# Altium integrated library Atmel Microcontroller 32-Bit ARM.IntLib: 116 symbols (part 1 of 10)
Pins are listed as number, name and electrical type; pins without a type are passive.

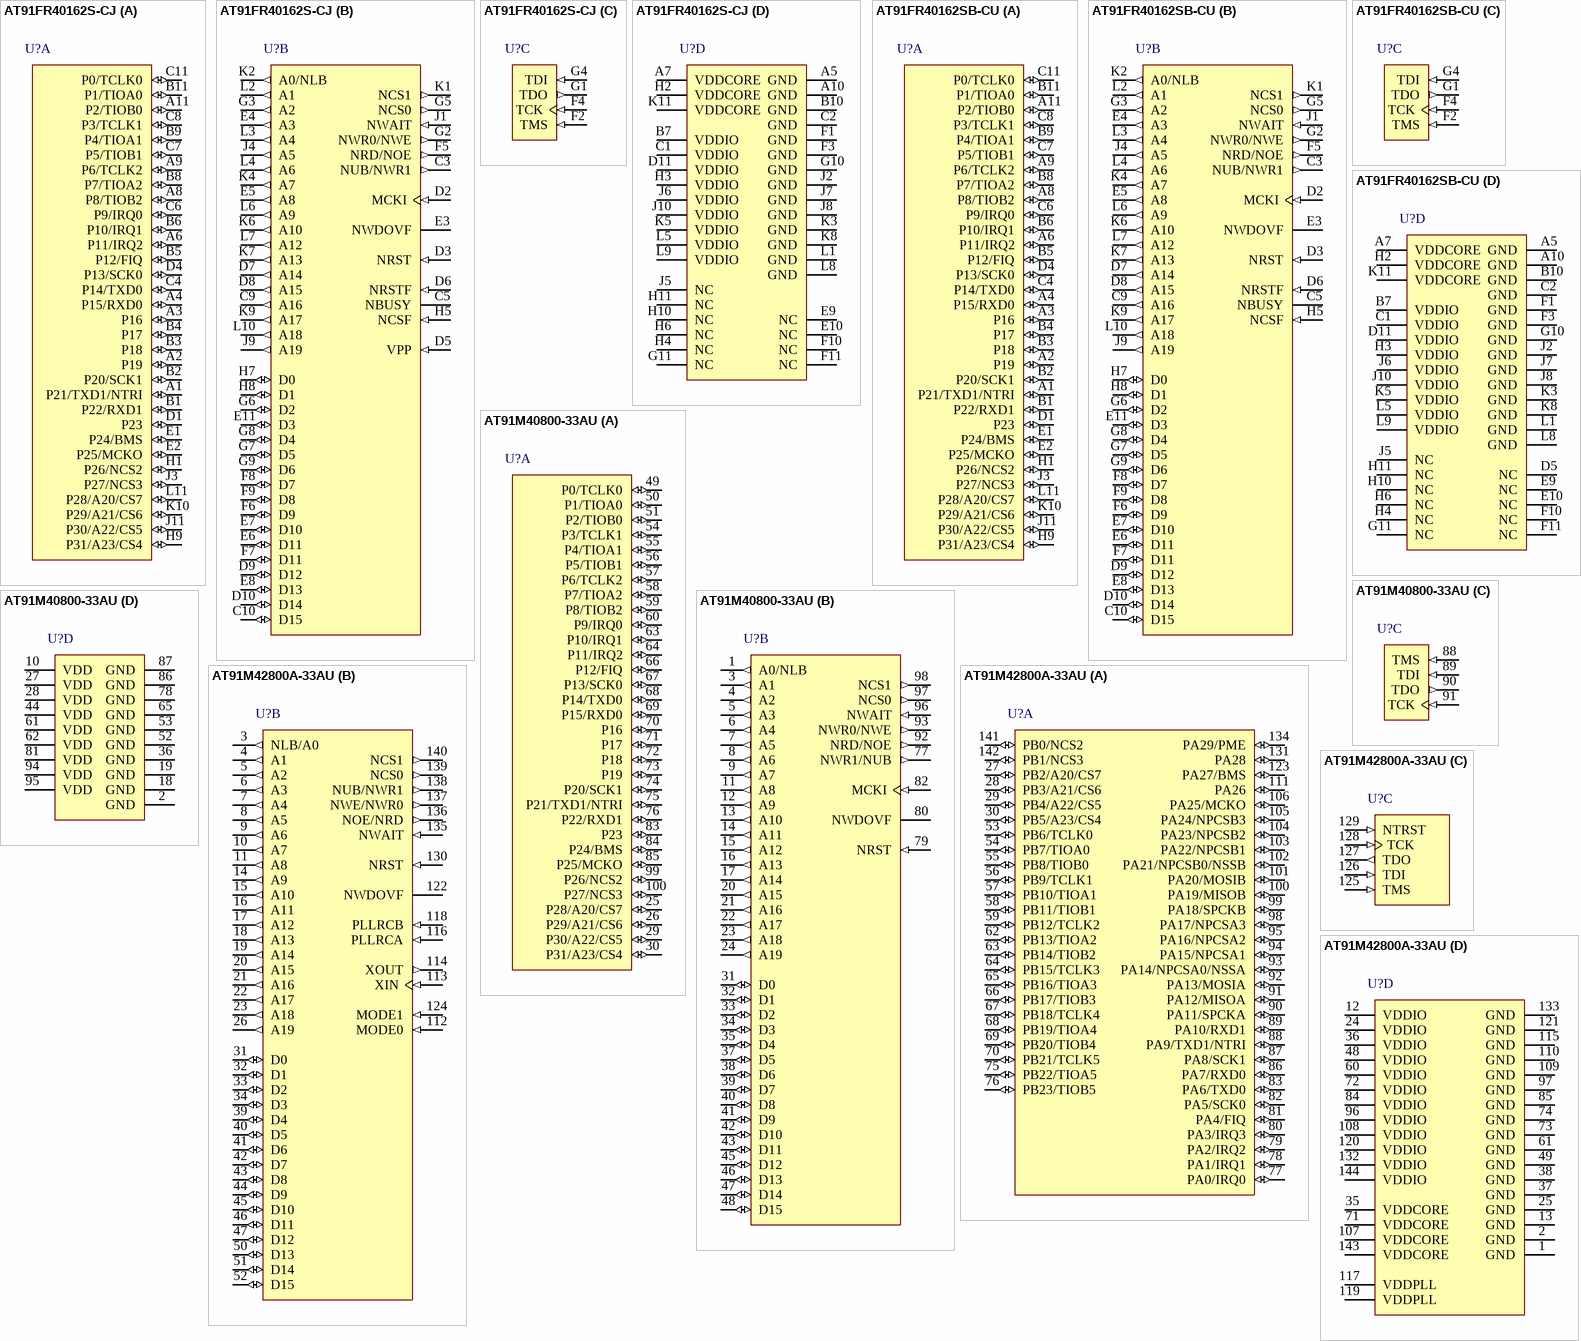
[diagram p0: symbols AT91FR40162S-CJ to AT91M42800A-33AU]

## AT91FR40162S-CJ
designator U?
AT91 ARM Thumb 32-bit Microcontroller, 2MB Flash, 256KB SRAM, EBI, 4-ch. PDC, 32 User I/Os, 121-Pin TFBGA, Industrial Grade (-40°C to 85°C), Pb-Free; Published: 20-Sep-2010; DatasheetVersion: revB, Nov-2005; PackageVersion: 2005; PackageReference: TFBGA121; Publisher: Altium Limited; PackageDescription: 121-Lead Low Profile Thin-Fine Pitch BGA - 10x10 mm Body; Supplier 1: Digi-Key; Supplier Part Number 1: AT91FR40162S-CJ-ND; Supplier 2: Mouser; Supplier Part Number 2: 556-A91FR40162S-CJ; ComponentLink1Description: Manufacturer Link; ComponentLink1URL: http://www.atmel.com/products/AT91/default.asp?; ComponentLink2Description: AT91FR40162S Datasheet; ComponentLink2URL: http://www.atmel.com/dyn/resources/prod_documents/doc6174.pdf; ComponentLink3Description: AT91FR40162S Summary; ComponentLink3URL: http://www.atmel.com/dyn/resources/prod_documents/6174S.pdf; ComponentLink4Description: ARM7TDMI Reference Manual; ComponentLink4URL: http://www.atmel.com/dyn/resources/prod_documents/DDI0029G_7TDMI_R3_trm.pdf; ComponentLink5Description: Atmel.com Home; ComponentLink5URL: http://www.atmel.com
footprint TFBGA121 (BGA, 121-Leads, Body 10x10mm, Pitch 0.8mm)
part A pins: A1 P21/TXD1/NTRI (io), A2 P19 (io), A3 P16 (io), A4 P15/RXD0 (io), A6 P11/IRQ2 (io), A8 P8/TIOB2 (io), A9 P6/TCLK2 (io), A11 P2/TIOB0 (io), B1 P22/RXD1 (io), B2 P20/SCK1 (io), B3 P18 (io), B4 P17 (io), B5 P12/FIQ (io), B6 P10/IRQ1 (io), B8 P7/TIOA2 (io), B9 P4/TIOA1 (io), B11 P1/TIOA0 (io), C4 P14/TXD0 (io), C6 P9/IRQ0 (io), C7 P5/TIOB1 (io), C8 P3/TCLK1 (io), C11 P0/TCLK0 (io), D1 P23 (io), D4 P13/SCK0 (io), E1 P24/BMS (io), E2 P25/MCKO (io), H1 P26/NCS2 (io), H9 P31/A23/CS4 (io), J3 P27/NCS3 (io), J11 P30/A22/CS5 (io), K10 P29/A21/CS6 (io), L11 P28/A20/CS7 (io)
part B pins: C3 NUB/NWR1 (out), C5 NBUSY (oc), C9 A16 (out), C10 D15 (io), D2 MCKI (in), D3 NRST (in), D5 VPP (in), D6 NRSTF (in), D7 A14 (out), D8 A15 (out), D9 D12 (io), D10 D14 (io), E3 NWDOVF (oc), E4 A3 (out), E5 A8 (out), E6 D11 (io), E7 D10 (io), E8 D13 (io), E11 D3 (io), F5 NRD/NOE (out), F6 D9 (io), F7 D11 (io), F8 D7 (io), F9 D8 (io), G2 NWR0/NWE (out), G3 A2 (out), G5 NCS0 (out), G6 D2 (io), G7 D5 (io), G8 D4 (io), G9 D6 (io), H5 NCSF (in), H7 D0 (io), H8 D1 (io), J1 NWAIT (in), J4 A5 (out), J9 A19 (out), K1 NCS1 (out), K2 A0/NLB (out), K4 A7 (out), K6 A10 (out), K7 A13 (out), K9 A17 (out), L2 A1 (out), L3 A4 (out), L4 A6 (out), L6 A9 (out), L7 A12 (out), L10 A18 (out)
part C pins: F2 TMS (in), F4 TCK (in), G1 TDO (out), G4 TDI (in)
part D pins: A5 GND (power), A7 VDDCORE (power), A10 GND (power), B7 VDDIO (power), B10 GND (power), C1 VDDIO (power), C2 GND (power), D11 VDDIO (power), E9 NC, E10 NC, F1 GND (power), F3 GND (power), F10 NC, F11 NC, G10 GND (power), G11 NC, H2 VDDCORE (power), H3 VDDIO (power), H4 NC, H6 NC, H10 NC, H11 NC, J2 GND (power), J5 NC, J6 VDDIO (power), J7 GND (power), J8 GND (power), J10 VDDIO (power), K3 GND (power), K5 VDDIO (power), K8 GND (power), K11 VDDCORE (power), L1 GND (power), L5 VDDIO (power), L8 GND (power), L9 VDDIO (power)

## AT91FR40162SB-CU
designator U?
AT91 ARM Thumb 32-bit Microcontroller, 2MB Flash, 256KB SRAM, EBI, 4-ch. PDC, 32 User I/Os, 121-Pin TFBGA, Industrial Grade (-40°C to 85°C), Pb-Free; Published: 20-Sep-2010; DatasheetVersion: revB, Jan-2010; PackageVersion: 2005; PackageReference: TFBGA121; Publisher: Altium Limited; PackageDescription: 121-Lead Low Profile Thin-Fine Pitch BGA - 10x10 mm Body; Supplier 1: Digi-Key; Supplier Part Number 1: AT91FR40162SB-CU-ND; Supplier 2: Mouser; Supplier Part Number 2: 556-AT91FR40162SB-CU; ComponentLink1Description: Manufacturer Link; ComponentLink1URL: http://www.atmel.com/products/AT91/default.asp?; ComponentLink2Description: AT91FR40162SB Datasheet; ComponentLink2URL: http://www.atmel.com/dyn/resources/prod_documents/doc6410.pdf; ComponentLink3Description: AT91FR40162SB Summary; ComponentLink3URL: http://www.atmel.com/dyn/resources/prod_documents/6410s.pdf; ComponentLink4Description: ARM7TDMI Reference Manual; ComponentLink4URL: http://www.atmel.com/dyn/resources/prod_documents/DDI0029G_7TDMI_R3_trm.pdf; ComponentLink5Description: Atmel.com Home; ComponentLink5URL: http://www.atmel.com
footprint TFBGA121 (BGA, 121-Leads, Body 10x10mm, Pitch 0.8mm)
part A pins: A1 P21/TXD1/NTRI (io), A2 P19 (io), A3 P16 (io), A4 P15/RXD0 (io), A6 P11/IRQ2 (io), A8 P8/TIOB2 (io), A9 P6/TCLK2 (io), A11 P2/TIOB0 (io), B1 P22/RXD1 (io), B2 P20/SCK1 (io), B3 P18 (io), B4 P17 (io), B5 P12/FIQ (io), B6 P10/IRQ1 (io), B8 P7/TIOA2 (io), B9 P4/TIOA1 (io), B11 P1/TIOA0 (io), C4 P14/TXD0 (io), C6 P9/IRQ0 (io), C7 P5/TIOB1 (io), C8 P3/TCLK1 (io), C11 P0/TCLK0 (io), D1 P23 (io), D4 P13/SCK0 (io), E1 P24/BMS (io), E2 P25/MCKO (io), H1 P26/NCS2 (io), H9 P31/A23/CS4 (io), J3 P27/NCS3 (io), J11 P30/A22/CS5 (io), K10 P29/A21/CS6 (io), L11 P28/A20/CS7 (io)
part B pins: C3 NUB/NWR1 (out), C5 NBUSY (oc), C9 A16 (out), C10 D15 (io), D2 MCKI (in), D3 NRST (in), D6 NRSTF (in), D7 A14 (out), D8 A15 (out), D9 D12 (io), D10 D14 (io), E3 NWDOVF (oc), E4 A3 (out), E5 A8 (out), E6 D11 (io), E7 D10 (io), E8 D13 (io), E11 D3 (io), F5 NRD/NOE (out), F6 D9 (io), F7 D11 (io), F8 D7 (io), F9 D8 (io), G2 NWR0/NWE (out), G3 A2 (out), G5 NCS0 (out), G6 D2 (io), G7 D5 (io), G8 D4 (io), G9 D6 (io), H5 NCSF (in), H7 D0 (io), H8 D1 (io), J1 NWAIT (in), J4 A5 (out), J9 A19 (out), K1 NCS1 (out), K2 A0/NLB (out), K4 A7 (out), K6 A10 (out), K7 A13 (out), K9 A17 (out), L2 A1 (out), L3 A4 (out), L4 A6 (out), L6 A9 (out), L7 A12 (out), L10 A18 (out)
part C pins: F2 TMS (in), F4 TCK (in), G1 TDO (out), G4 TDI (in)
part D pins: A5 GND (power), A7 VDDCORE (power), A10 GND (power), B7 VDDIO (power), B10 GND (power), C1 VDDIO (power), C2 GND (power), D5 NC, D11 VDDIO (power), E9 NC, E10 NC, F1 GND (power), F3 GND (power), F10 NC, F11 NC, G10 GND (power), G11 NC, H2 VDDCORE (power), H3 VDDIO (power), H4 NC, H6 NC, H10 NC, H11 NC, J2 GND (power), J5 NC, J6 VDDIO (power), J7 GND (power), J8 GND (power), J10 VDDIO (power), K3 GND (power), K5 VDDIO (power), K8 GND (power), K11 VDDCORE (power), L1 GND (power), L5 VDDIO (power), L8 GND (power), L9 VDDIO (power)

## AT91M40800-33AU
designator U?
AT91 ARM Thumb 32-bit Microcontroller, 8KB SRAM, EBI, 4-ch. PDC, 40MHz (max), 32 User I/Os, 100-Pin LQFP, Industrial Grade (-40°C to 85°C), Pb-Free; Published: 20-Sep-2010; DatasheetVersion: revD, Oct-2002; PackageVersion: Apr-2006; PackageReference: LQFP100; Publisher: Altium Limited; PackageDescription: 100-Pin Thin Quad Flat Pack 0.5 mm Pitch; Supplier 1: Digi-Key; Supplier Part Number 1: AT91M40800-33AU-ND; Supplier 2: Mouser; Supplier Part Number 2: 556-A91M40800-33AU; Code_JEDEC: MS-026-BED; ComponentLink1Description: Manufacturer Link; ComponentLink1URL: http://www.atmel.com/products/AT91/default.asp?; ComponentLink2Description: AT91X40 Series Datasheet; ComponentLink2URL: http://www.atmel.com/dyn/resources/prod_documents/doc1354.pdf; ComponentLink3Description: AT91M40800 Summary; ComponentLink3URL: http://www.atmel.com/dyn/resources/prod_documents/1348S.pdf; ComponentLink4Description: ARM7TDMI Reference Manual; ComponentLink4URL: http://www.atmel.com/dyn/resources/prod_documents/DDI0029G_7TDMI_R3_trm.pdf; ComponentLink5Description: Atmel.com Home; ComponentLink5URL: http://www.atmel.com
footprint LQFP100_N (Thin QFP, 100-Leads, Body 14x14mm, Pitch 0.5mm, IPC Medium Density)
footprint LQFP100_L (Thin QFP, 100-Leads, Body 14x14mm, Pitch 0.5mm, IPC High Density)
footprint LQFP100_M (Thin QFP, 100-Leads, Body 14x14mm, Pitch 0.5mm, IPC Low Density)
part A pins: 25 P28/A20/CS7 (io), 26 P29/A21/CS6 (io), 29 P30/A22/CS5 (io), 30 P31/A23/CS4 (io), 49 P0/TCLK0 (io), 50 P1/TIOA0 (io), 51 P2/TIOB0 (io), 54 P3/TCLK1 (io), 55 P4/TIOA1 (io), 56 P5/TIOB1 (io), 57 P6/TCLK2 (io), 58 P7/TIOA2 (io), 59 P8/TIOB2 (io), 60 P9/IRQ0 (io), 63 P10/IRQ1 (io), 64 P11/IRQ2 (io), 66 P12/FIQ (io), 67 P13/SCK0 (io), 68 P14/TXD0 (io), 69 P15/RXD0 (io), 70 P16 (io), 71 P17 (io), 72 P18 (io), 73 P19 (io), 74 P20/SCK1 (io), 75 P21/TXD1/NTRI (io), 76 P22/RXD1 (io), 83 P23 (io), 84 P24/BMS (io), 85 P25/MCKO (io), 99 P26/NCS2 (io), 100 P27/NCS3 (io)
part B pins: 1 A0/NLB (out), 3 A1 (out), 4 A2 (out), 5 A3 (out), 6 A4 (out), 7 A5 (out), 8 A6 (out), 9 A7 (out), 11 A8 (out), 12 A9 (out), 13 A10 (out), 14 A11 (out), 15 A12 (out), 16 A13 (out), 17 A14 (out), 20 A15 (out), 21 A16 (out), 22 A17 (out), 23 A18 (out), 24 A19 (out), 31 D0 (io), 32 D1 (io), 33 D2 (io), 34 D3 (io), 35 D4 (io), 37 D5 (io), 38 D6 (io), 39 D7 (io), 40 D8 (io), 41 D9 (io), 42 D10 (io), 43 D11 (io), 45 D12 (io), 46 D13 (io), 47 D14 (io), 48 D15 (io), 77 NWR1/NUB (out), 79 NRST (in), 80 NWDOVF (oc), 82 MCKI (in), 92 NRD/NOE (out), 93 NWR0/NWE (out), 96 NWAIT (in), 97 NCS0 (out), 98 NCS1 (out)
part C pins: 88 TMS (in), 89 TDI (in), 90 TDO (out), 91 TCK (in)
part D pins: 2 GND (power), 10 VDD (power), 18 GND (power), 19 GND (power), 27 VDD (power), 28 VDD (power), 36 GND (power), 44 VDD (power), 52 GND (power), 53 GND (power), 61 VDD (power), 62 VDD (power), 65 GND (power), 78 GND (power), 81 VDD (power), 86 GND (power), 87 GND (power), 94 VDD (power), 95 VDD (power)

## AT91M42800A-33AU
designator U?
AT91 ARM Thumb 32-bit Microcontroller, 8KB SRAM, EBI, 54 User I/Os, 144-Pin LQFP, Industrial Grade (-40°C to 85°C), Pb-Free; Published: 20-Sep-2010; DatasheetVersion: revD, Apr-2006; PackageVersion: rev.C, Oct-2001; PackageReference: 144AA; Publisher: Altium Limited; PackageDescription: 144-Pin Thin Quad Flat Pack 0.5 mm Pitch; Supplier 1: Digi-Key; Supplier Part Number 1: AT91M42800A-33AU-ND; Supplier 2: Mouser; Supplier Part Number 2: 556-A91M42800A-33AU; Code_JEDEC: MS-026-BFB; ComponentLink1Description: Manufacturer Link; ComponentLink1URL: http://www.atmel.com/products/AT91/default.asp?; ComponentLink2Description: AT91M42800A Datasheet; ComponentLink2URL: http://www.atmel.com/dyn/resources/prod_documents/doc1779.pdf; ComponentLink3Description: AT91M42800A Summary; ComponentLink3URL: http://www.atmel.com/dyn/resources/prod_documents/1779s.pdf; ComponentLink4Description: ARM7TDMI Reference Manual; ComponentLink4URL: http://www.atmel.com/dyn/resources/prod_documents/DDI0029G_7TDMI_R3_trm.pdf; ComponentLink5Description: Atmel.com Home; ComponentLink5URL: http://www.atmel.com
footprint 144AA_N (Thin QFP, 144-Leads, Body 20x20mm, Pitch 0.5mm, IPC Medium Density)
footprint 144AA_L (Thin QFP, 144-Leads, Body 20x20mm, Pitch 0.5mm, IPC High Density)
footprint 144AA_M (Thin QFP, 144-Leads, Body 20x20mm, Pitch 0.5mm, IPC Low Density)
part A pins: 27 PB2/A20/CS7 (io), 28 PB3/A21/CS6 (io), 29 PB4/A22/CS5 (io), 30 PB5/A23/CS4 (io), 53 PB6/TCLK0 (io), 54 PB7/TIOA0 (io), 55 PB8/TIOB0 (io), 56 PB9/TCLK1 (io), 57 PB10/TIOA1 (io), 58 PB11/TIOB1 (io), 59 PB12/TCLK2 (io), 62 PB13/TIOA2 (io), 63 PB14/TIOB2 (io), 64 PB15/TCLK3 (io), 65 PB16/TIOA3 (io), 66 PB17/TIOB3 (io), 67 PB18/TCLK4 (io), 68 PB19/TIOA4 (io), 69 PB20/TIOB4 (io), 70 PB21/TCLK5 (io), 75 PB22/TIOA5 (io), 76 PB23/TIOB5 (io), 77 PA0/IRQ0 (io), 78 PA1/IRQ1 (io), 79 PA2/IRQ2 (io), 80 PA3/IRQ3 (io), 81 PA4/FIQ (io), 82 PA5/SCK0 (io), 83 PA6/TXD0 (io), 86 PA7/RXD0 (io), 87 PA8/SCK1 (io), 88 PA9/TXD1/NTRI (io), 89 PA10/RXD1 (io), 90 PA11/SPCKA (io), 91 PA12/MISOA (io), 92 PA13/MOSIA (io), 93 PA14/NPCSA0/NSSA (io), 94 PA15/NPCSA1 (io), 95 PA16/NPCSA2 (io), 98 PA17/NPCSA3 (io), 99 PA18/SPCKB (io), 100 PA19/MISOB (io), 101 PA20/MOSIB (io), 102 PA21/NPCSB0/NSSB (io), 103 PA22/NPCSB1 (io), 104 PA23/NPCSB2 (io), 105 PA24/NPCSB3 (io), 106 PA25/MCKO (io), 111 PA26 (io), 123 PA27/BMS (io), 131 PA28 (io), 134 PA29/PME (io), 141 PB0/NCS2 (io), 142 PB1/NCS3 (io)
part B pins: 3 NLB/A0 (out), 4 A1 (out), 5 A2 (out), 6 A3 (out), 7 A4 (out), 8 A5 (out), 9 A6 (out), 10 A7 (out), 11 A8 (out), 14 A9 (out), 15 A10 (out), 16 A11 (out), 17 A12 (out), 18 A13 (out), 19 A14 (out), 20 A15 (out), 21 A16 (out), 22 A17 (out), 23 A18 (out), 26 A19 (out), 31 D0 (io), 32 D1 (io), 33 D2 (io), 34 D3 (io), 39 D4 (io), 40 D5 (io), 41 D6 (io), 42 D7 (io), 43 D8 (io), 44 D9 (io), 45 D10 (io), 46 D11 (io), 47 D12 (io), 50 D13 (io), 51 D14 (io), 52 D15 (io), 112 MODE0 (in), 113 XIN (in), 114 XOUT (out), 116 PLLRCA (in), 118 PLLRCB (in), 122 NWDOVF (oc), 124 MODE1 (in), 130 NRST (in), 135 NWAIT (in), 136 NOE/NRD (out), 137 NWE/NWR0 (out), 138 NUB/NWR1 (out), 139 NCS0 (out), 140 NCS1 (out)
part C pins: 125 TMS (in), 126 TDI (in), 127 TDO (out), 128 TCK (in), 129 NTRST (in)
part D pins: 1 GND (power), 2 GND (power), 12 VDDIO (power), 13 GND (power), 24 VDDIO (power), 25 GND (power), 35 VDDCORE (power), 36 VDDIO (power), 37 GND (power), 38 GND (power), 48 VDDIO (power), 49 GND (power), 60 VDDIO (power), 61 GND (power), 71 VDDCORE (power), 72 VDDIO (power), 73 GND (power), 74 GND (power), 84 VDDIO (power), 85 GND (power), 96 VDDIO (power), 97 GND (power), 107 VDDCORE (power), 108 VDDIO (power), 109 GND (power), 110 GND (power), 115 GND (power), 117 VDDPLL (power), 119 VDDPLL (power), 120 VDDIO (power), 121 GND (power), 132 VDDIO (power), 133 GND (power), 143 VDDCORE (power), 144 VDDIO (power)

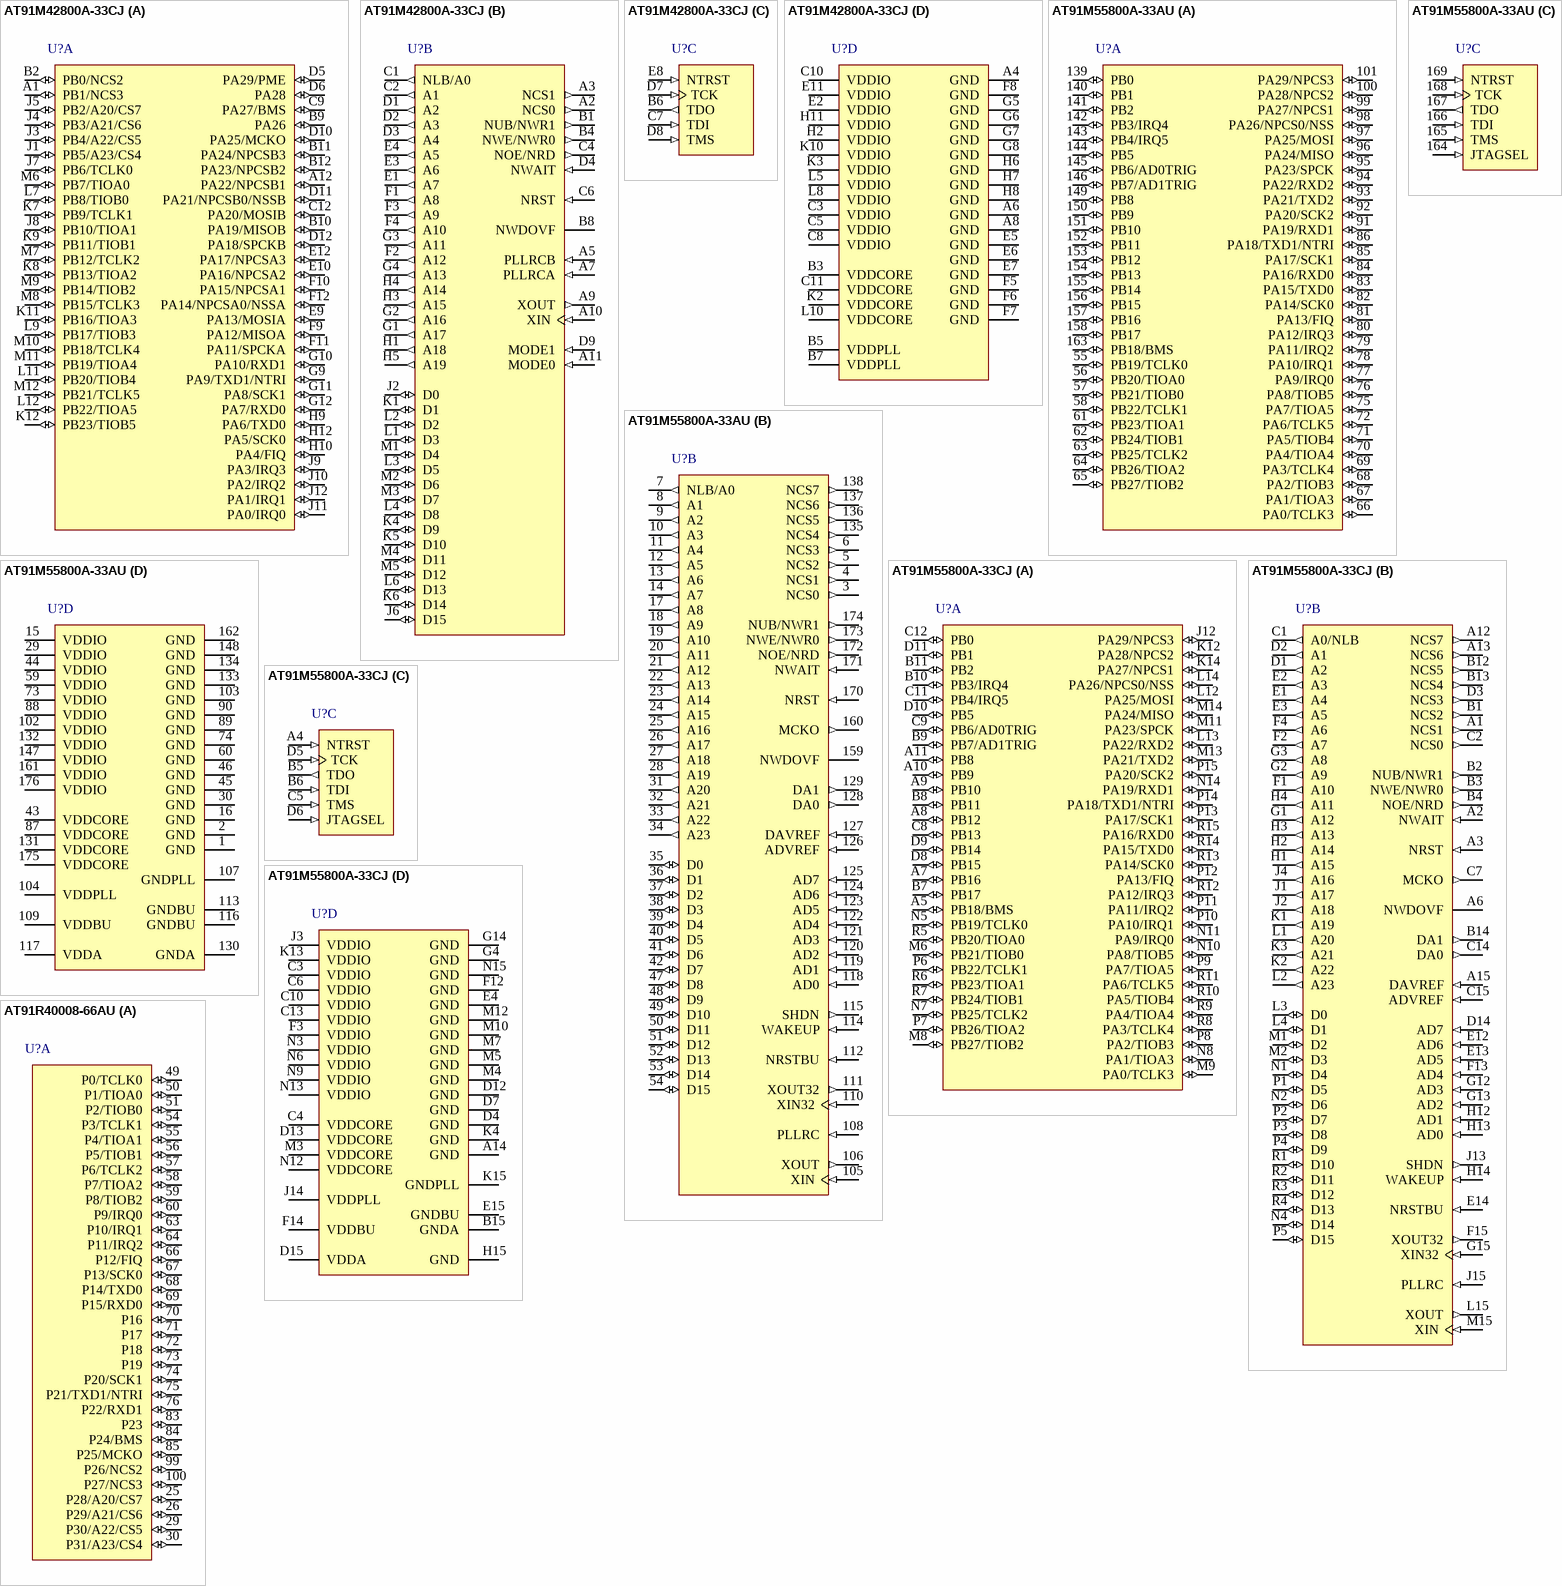
[diagram p1: symbols AT91M42800A-33CJ to AT91R40008-66AU]

## AT91M42800A-33CJ
designator U?
AT91 ARM Thumb 32-bit Microcontroller, 8KB SRAM, EBI, 54 User I/Os, 144-Pin LBGA, Industrial Grade (-40°C to 85°C), Pb-Free; Published: 20-Sep-2010; DatasheetVersion: revD, Apr-2006; PackageVersion: 2006; PackageReference: LBGA144; Publisher: Altium Limited; PackageDescription: 144-Ball 13 x 13 mm, Ball Grid Array 1 mm Pitch; Supplier 1: Digi-Key; Supplier Part Number 1: AT91M42800A-33CJ-ND; Supplier 2: Mouser; Supplier Part Number 2: 556-A91M42800A-33CJ; ComponentLink1Description: Manufacturer Link; ComponentLink1URL: http://www.atmel.com/products/AT91/default.asp?; ComponentLink2Description: AT91M42800A Datasheet; ComponentLink2URL: http://www.atmel.com/dyn/resources/prod_documents/doc1779.pdf; ComponentLink3Description: AT91M42800A Summary; ComponentLink3URL: http://www.atmel.com/dyn/resources/prod_documents/1779s.pdf; ComponentLink4Description: ARM7TDMI Reference Manual; ComponentLink4URL: http://www.atmel.com/dyn/resources/prod_documents/DDI0029G_7TDMI_R3_trm.pdf; ComponentLink5Description: Atmel.com Home; ComponentLink5URL: http://www.atmel.com
footprint LBGA144 (BGA, 144-Leads, Body 13x13mm, Pitch 1mm)
part A pins: A1 PB1/NCS3 (io), A12 PA22/NPCSB1 (io), B2 PB0/NCS2 (io), B9 PA26 (io), B10 PA19/MISOB (io), B11 PA24/NPCSB3 (io), B12 PA23/NPCSB2 (io), C9 PA27/BMS (io), C12 PA20/MOSIB (io), D5 PA29/PME (io), D6 PA28 (io), D10 PA25/MCKO (io), D11 PA21/NPCSB0/NSSB (io), D12 PA18/SPCKB (io), E9 PA13/MOSIA (io), E10 PA16/NPCSA2 (io), E12 PA17/NPCSA3 (io), F9 PA12/MISOA (io), F10 PA15/NPCSA1 (io), F11 PA11/SPCKA (io), F12 PA14/NPCSA0/NSSA (io), G9 PA9/TXD1/NTRI (io), G10 PA10/RXD1 (io), G11 PA8/SCK1 (io), G12 PA7/RXD0 (io), H9 PA6/TXD0 (io), H10 PA4/FIQ (io), H12 PA5/SCK0 (io), J1 PB5/A23/CS4 (io), J3 PB4/A22/CS5 (io), J4 PB3/A21/CS6 (io), J5 PB2/A20/CS7 (io), J7 PB6/TCLK0 (io), J8 PB10/TIOA1 (io), J9 PA3/IRQ3 (io), J10 PA2/IRQ2 (io), J11 PA0/IRQ0 (io), J12 PA1/IRQ1 (io), K7 PB9/TCLK1 (io), K8 PB13/TIOA2 (io), K9 PB11/TIOB1 (io), K11 PB16/TIOA3 (io), K12 PB23/TIOB5 (io), L7 PB8/TIOB0 (io), L9 PB17/TIOB3 (io), L11 PB20/TIOB4 (io), L12 PB22/TIOA5 (io), M6 PB7/TIOA0 (io), M7 PB12/TCLK2 (io), M8 PB15/TCLK3 (io), M9 PB14/TIOB2 (io), M10 PB18/TCLK4 (io), M11 PB19/TIOA4 (io), M12 PB21/TCLK5 (io)
part B pins: A2 NCS0 (out), A3 NCS1 (out), A5 PLLRCB (in), A7 PLLRCA (in), A9 XOUT (out), A10 XIN (in), A11 MODE0 (in), B1 NUB/NWR1 (out), B4 NWE/NWR0 (out), B8 NWDOVF (oc), C1 NLB/A0 (out), C2 A1 (out), C4 NOE/NRD (out), C6 NRST (in), D1 A2 (out), D2 A3 (out), D3 A4 (out), D4 NWAIT (in), D9 MODE1 (in), E1 A7 (out), E3 A6 (out), E4 A5 (out), F1 A8 (out), F2 A12 (out), F3 A9 (out), F4 A10 (out), G1 A17 (out), G2 A16 (out), G3 A11 (out), G4 A13 (out), H1 A18 (out), H3 A15 (out), H4 A14 (out), H5 A19 (out), J2 D0 (io), J6 D15 (io), K1 D1 (io), K4 D9 (io), K5 D10 (io), K6 D14 (io), L1 D3 (io), L2 D2 (io), L3 D5 (io), L4 D8 (io), L6 D13 (io), M1 D4 (io), M2 D6 (io), M3 D7 (io), M4 D11 (io), M5 D12 (io)
part C pins: B6 TDO (out), C7 TDI (in), D7 TCK (in), D8 TMS (in), E8 NTRST (in)
part D pins: A4 GND (power), A6 GND (power), A8 GND (power), B3 VDDCORE (power), B5 VDDPLL (power), B7 VDDPLL (power), C3 VDDIO (power), C5 VDDIO (power), C8 VDDIO (power), C10 VDDIO (power), C11 VDDCORE (power), E2 VDDIO (power), E5 GND (power), E6 GND (power), E7 GND (power), E11 VDDIO (power), F5 GND (power), F6 GND (power), F7 GND (power), F8 GND (power), G5 GND (power), G6 GND (power), G7 GND (power), G8 GND (power), H2 VDDIO (power), H6 GND (power), H7 GND (power), H8 GND (power), H11 VDDIO (power), K2 VDDCORE (power), K3 VDDIO (power), K10 VDDIO (power), L5 VDDIO (power), L8 VDDIO (power), L10 VDDCORE (power)

## AT91M55800A-33AU
designator U?
AT91 ARM Thumb 32-bit Microcontroller, 8KB SRAM, EBI, 58 User I/Os, 8-ch. 10-bit ADC, 176-Pin LQFP, Industrial Grade (-40°C to 85°C), Pb-Free; Published: 20-Sep-2010; DatasheetVersion: revF, Sep-2007; PackageVersion: Jul-2004; PackageReference: LQFP176; Publisher: Altium Limited; PackageDescription: 176-Pin Thin Quad Flat Pack 0.5 mm Pitch; Supplier 1: Digi-Key; Supplier Part Number 1: AT91M55800A-33AU-ND; Supplier 2: Mouser; Supplier Part Number 2: 556-A91M55800A-33AU; Code_JEDEC: MS-026-BGA; ComponentLink1Description: Manufacturer Link; ComponentLink1URL: http://www.atmel.com/products/AT91/default.asp?; ComponentLink2Description: AT91M55800A Datasheet; ComponentLink2URL: http://www.atmel.com/dyn/resources/prod_documents/doc1745.pdf; ComponentLink3Description: AT91M55800A Summary; ComponentLink3URL: http://www.atmel.com/dyn/resources/prod_documents/1745s.pdf; ComponentLink4Description: ARM7TDMI Reference Manual; ComponentLink4URL: http://www.atmel.com/dyn/resources/prod_documents/DDI0029G_7TDMI_R3_trm.pdf; ComponentLink5Description: Atmel.com Home; ComponentLink5URL: http://www.atmel.com
footprint LQFP176_N (Thin QFP, 176-Leads, Body 24x24mm, Pitch 0.5mm, IPC Medium Density)
footprint LQFP176_L (Thin QFP, 176-Leads, Body 24x24mm, Pitch 0.5mm, IPC High Density)
footprint LQFP176_M (Thin QFP, 176-Leads, Body 24x24mm, Pitch 0.5mm, IPC Low Density)
part A pins: 55 PB19/TCLK0 (io), 56 PB20/TIOA0 (io), 57 PB21/TIOB0 (io), 58 PB22/TCLK1 (io), 61 PB23/TIOA1 (io), 62 PB24/TIOB1 (io), 63 PB25/TCLK2 (io), 64 PB26/TIOA2 (io), 65 PB27/TIOB2 (io), 66 PA0/TCLK3 (io), 67 PA1/TIOA3 (io), 68 PA2/TIOB3 (io), 69 PA3/TCLK4 (io), 70 PA4/TIOA4 (io), 71 PA5/TIOB4 (io), 72 PA6/TCLK5 (io), 75 PA7/TIOA5 (io), 76 PA8/TIOB5 (io), 77 PA9/IRQ0 (io), 78 PA10/IRQ1 (io), 79 PA11/IRQ2 (io), 80 PA12/IRQ3 (io), 81 PA13/FIQ (io), 82 PA14/SCK0 (io), 83 PA15/TXD0 (io), 84 PA16/RXD0 (io), 85 PA17/SCK1 (io), 86 PA18/TXD1/NTRI (io), 91 PA19/RXD1 (io), 92 PA20/SCK2 (io), 93 PA21/TXD2 (io), 94 PA22/RXD2 (io), 95 PA23/SPCK (io), 96 PA24/MISO (io), 97 PA25/MOSI (io), 98 PA26/NPCS0/NSS (io), 99 PA27/NPCS1 (io), 100 PA28/NPCS2 (io), 101 PA29/NPCS3 (io), 139 PB0 (io), 140 PB1 (io), 141 PB2 (io), 142 PB3/IRQ4 (io), 143 PB4/IRQ5 (io), 144 PB5 (io), 145 PB6/AD0TRIG (io), 146 PB7/AD1TRIG (io), 149 PB8 (io), 150 PB9 (io), 151 PB10 (io), 152 PB11 (io), 153 PB12 (io), 154 PB13 (io), 155 PB14 (io), 156 PB15 (io), 157 PB16 (io), 158 PB17 (io), 163 PB18/BMS (io)
part B pins: 3 NCS0 (out), 4 NCS1 (out), 5 NCS2 (out), 6 NCS3 (out), 7 NLB/A0 (out), 8 A1 (out), 9 A2 (out), 10 A3 (out), 11 A4 (out), 12 A5 (out), 13 A6 (out), 14 A7 (out), 17 A8 (out), 18 A9 (out), 19 A10 (out), 20 A11 (out), 21 A12 (out), 22 A13 (out), 23 A14 (out), 24 A15 (out), 25 A16 (out), 26 A17 (out), 27 A18 (out), 28 A19 (out), 31 A20 (out), 32 A21 (out), 33 A22 (out), 34 A23 (out), 35 D0 (io), 36 D1 (io), 37 D2 (io), 38 D3 (io), 39 D4 (io), 40 D5 (io), 41 D6 (io), 42 D7 (io), 47 D8 (io), 48 D9 (io), 49 D10 (io), 50 D11 (io), 51 D12 (io), 52 D13 (io), 53 D14 (io), 54 D15 (io), 105 XIN (in), 106 XOUT (out), 108 PLLRC (in), 110 XIN32 (in), 111 XOUT32 (out), 112 NRSTBU (in), 114 WAKEUP (in), 115 SHDN (out), 118 AD0 (in), 119 AD1 (in), 120 AD2 (in), 121 AD3 (in), 122 AD4 (in), 123 AD5 (in), 124 AD6 (in), 125 AD7 (in), 126 ADVREF (in), 127 DAVREF (in), 128 DA0 (out), 129 DA1 (out), 135 NCS4 (out), 136 NCS5 (out), 137 NCS6 (out), 138 NCS7 (out), 159 NWDOVF (oc), 160 MCKO (out), 170 NRST (in), 171 NWAIT (in), 172 NOE/NRD (out), 173 NWE/NWR0 (out), 174 NUB/NWR1 (out)
part C pins: 164 JTAGSEL (in), 165 TMS (in), 166 TDI (in), 167 TDO (out), 168 TCK (in), 169 NTRST (in)
part D pins: 1 GND (power), 2 GND (power), 15 VDDIO (power), 16 GND (power), 29 VDDIO (power), 30 GND (power), 43 VDDCORE (power), 44 VDDIO (power), 45 GND (power), 46 GND (power), 59 VDDIO (power), 60 GND (power), 73 VDDIO (power), 74 GND (power), 87 VDDCORE (power), 88 VDDIO (power), 89 GND (power), 90 GND (power), 102 VDDIO (power), 103 GND (power), 104 VDDPLL (power), 107 GNDPLL (power), 109 VDDBU (power), 113 GNDBU (power), 116 GNDBU (power), 117 VDDA (power), 130 GNDA (power), 131 VDDCORE (power), 132 VDDIO (power), 133 GND (power), 134 GND (power), 147 VDDIO (power), 148 GND (power), 161 VDDIO (power), 162 GND (power), 175 VDDCORE (power), 176 VDDIO (power)

## AT91M55800A-33CJ
designator U?
AT91 ARM Thumb 32-bit Microcontroller, 8KB SRAM, EBI, 58 User I/Os, 8-ch. 10-bit ADC, 176-Pin LFBGA, Industrial Grade (-40°C to 85°C), Pb-Free; Published: 20-Sep-2010; DatasheetVersion: revF, Sep-2007; PackageVersion: 2006; PackageReference: LFBGA176; Publisher: Altium Limited; PackageDescription: 176-Ball Low Profile Fine-Pitch BGA, 13 x 13 mm Body, 0.8 mm Pitch; Supplier 1: Digi-Key; Supplier Part Number 1: AT91M55800A-33CJ-ND; Supplier 2: Mouser; Supplier Part Number 2: 556-A91M55800A-33CJ; Code_JEDEC: MO-205; ComponentLink1Description: Manufacturer Link; ComponentLink1URL: http://www.atmel.com/products/AT91/default.asp?; ComponentLink2Description: AT91M55800A Datasheet; ComponentLink2URL: http://www.atmel.com/dyn/resources/prod_documents/doc1745.pdf; ComponentLink3Description: AT91M55800A Summary; ComponentLink3URL: http://www.atmel.com/dyn/resources/prod_documents/1745s.pdf; ComponentLink4Description: ARM7TDMI Reference Manual; ComponentLink4URL: http://www.atmel.com/dyn/resources/prod_documents/DDI0029G_7TDMI_R3_trm.pdf; ComponentLink5Description: Atmel.com Home; ComponentLink5URL: http://www.atmel.com
footprint LFBGA176 (BGA, 176-Leads, Body 13x13mm, Pitch 0.8mm)
part A pins: A5 PB18/BMS (io), A7 PB16 (io), A8 PB12 (io), A9 PB10 (io), A10 PB9 (io), A11 PB8 (io), B7 PB17 (io), B8 PB11 (io), B9 PB7/AD1TRIG (io), B10 PB3/IRQ4 (io), B11 PB2 (io), C8 PB13 (io), C9 PB6/AD0TRIG (io), C11 PB4/IRQ5 (io), C12 PB0 (io), D8 PB15 (io), D9 PB14 (io), D10 PB5 (io), D11 PB1 (io), J12 PA29/NPCS3 (io), K12 PA28/NPCS2 (io), K14 PA27/NPCS1 (io), L12 PA25/MOSI (io), L13 PA22/RXD2 (io), L14 PA26/NPCS0/NSS (io), M6 PB21/TIOB0 (io), M8 PB27/TIOB2 (io), M9 PA0/TCLK3 (io), M11 PA23/SPCK (io), M13 PA21/TXD2 (io), M14 PA24/MISO (io), N5 PB19/TCLK0 (io), N7 PB25/TCLK2 (io), N8 PA1/TIOA3 (io), N10 PA8/TIOB5 (io), N11 PA9/IRQ0 (io), N14 PA19/RXD1 (io), P6 PB22/TCLK1 (io), P7 PB26/TIOA2 (io), P8 PA2/TIOB3 (io), P9 PA7/TIOA5 (io), P10 PA10/IRQ1 (io), P11 PA11/IRQ2 (io), P12 PA13/FIQ (io), P13 PA17/SCK1 (io), P14 PA18/TXD1/NTRI (io), P15 PA20/SCK2 (io), R5 PB20/TIOA0 (io), R6 PB23/TIOA1 (io), R7 PB24/TIOB1 (io), R8 PA3/TCLK4 (io), R9 PA4/TIOA4 (io), R10 PA5/TIOB4 (io), R11 PA6/TCLK5 (io), R12 PA12/IRQ3 (io), R13 PA14/SCK0 (io), R14 PA15/TXD0 (io), R15 PA16/RXD0 (io)
part B pins: A1 NCS1 (out), A2 NWAIT (in), A3 NRST (in), A6 NWDOVF (oc), A12 NCS7 (out), A13 NCS6 (out), A15 DAVREF (in), B1 NCS2 (out), B2 NUB/NWR1 (out), B3 NWE/NWR0 (out), B4 NOE/NRD (out), B12 NCS5 (out), B13 NCS4 (out), B14 DA1 (out), C1 A0/NLB (out), C2 NCS0 (out), C7 MCKO (out), C14 DA0 (out), C15 ADVREF (in), D1 A2 (out), D2 A1 (out), D3 NCS3 (out), D14 AD7 (in), E1 A4 (out), E2 A3 (out), E3 A5 (out), E12 AD6 (in), E13 AD5 (in), E14 NRSTBU (in), F1 A10 (out), F2 A7 (out), F4 A6 (out), F13 AD4 (in), F15 XOUT32 (out), G1 A12 (out), G2 A9 (out), G3 A8 (out), G12 AD3 (in), G13 AD2 (in), G15 XIN32 (in), H1 A15 (out), H2 A14 (out), H3 A13 (out), H4 A11 (out), H12 AD1 (in), H13 AD0 (in), H14 WAKEUP (in), J1 A17 (out), J2 A18 (out), J4 A16 (out), J13 SHDN (out), J15 PLLRC (in), K1 A19 (out), K2 A22 (out), K3 A21 (out), L1 A20 (out), L2 A23 (out), L3 D0 (io), L4 D1 (io), L15 XOUT (out), M1 D2 (io), M2 D3 (io), M15 XIN (in), N1 D4 (io), N2 D6 (io), N4 D14 (io), P1 D5 (io), P2 D7 (io), P3 D8 (io), P4 D9 (io), P5 D15 (io), R1 D10 (io), R2 D11 (io), R3 D12 (io), R4 D13 (io)
part C pins: A4 NTRST (in), B5 TDO (out), B6 TDI (in), C5 TMS (in), D5 TCK (in), D6 JTAGSEL (in)
part D pins: A14 GND (power), B15 GNDA (power), C3 VDDIO (power), C4 VDDCORE (power), C6 VDDIO (power), C10 VDDIO (power), C13 VDDIO (power), D4 GND (power), D7 GND (power), D12 GND (power), D13 VDDCORE (power), D15 VDDA (power), E4 GND (power), E15 GNDBU (power), F3 VDDIO (power), F12 GND (power), F14 VDDBU (power), G4 GND (power), G14 GND (power), H15 GND (power), J3 VDDIO (power), J14 VDDPLL (power), K4 GND (power), K13 VDDIO (power), K15 GNDPLL (power), M3 VDDCORE (power), M4 GND (power), M5 GND (power), M7 GND (power), M10 GND (power), M12 GND (power), N3 VDDIO (power), N6 VDDIO (power), N9 VDDIO (power), N12 VDDCORE (power), N13 VDDIO (power), N15 GND (power)

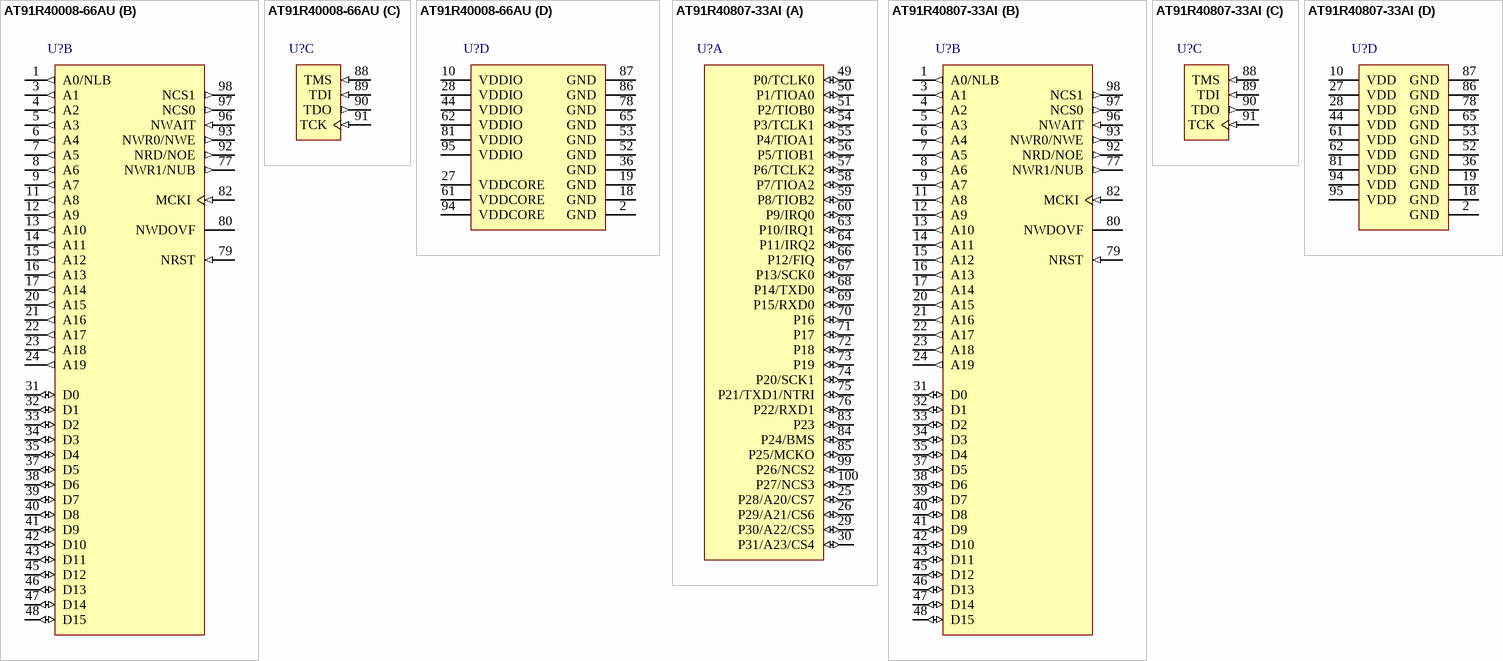
[diagram p2: symbols AT91R40008-66AU to AT91R40807-33AI]

## AT91R40008-66AU
designator U?
AT91 ARM Thumb 32-bit Microcontroller, 256KB SRAM, EBI, 4-ch. PDC, 32 User I/Os, 100-Pin LQFP, Industrial Grade (-40°C to 85°C), Pb-Free; Published: 20-Sep-2010; DatasheetVersion: revD, Oct-2002; PackageVersion: Apr-2006; PackageReference: LQFP100; Publisher: Altium Limited; PackageDescription: 100-Pin Thin Quad Flat Pack 0.5 mm Pitch; Supplier 1: Digi-Key; Supplier Part Number 1: AT91R40008-66AU-ND; Supplier 2: Mouser; Supplier Part Number 2: 556-A91R40008-66AU; Code_JEDEC: MS-026-BED; ComponentLink1Description: Manufacturer Link; ComponentLink1URL: http://www.atmel.com/products/AT91/default.asp?; ComponentLink2Description: AT91X40 Series Datasheet; ComponentLink2URL: http://www.atmel.com/dyn/resources/prod_documents/doc1354.pdf; ComponentLink3Description: AT91R40008 Summary; ComponentLink3URL: http://www.atmel.com/dyn/resources/prod_documents/1732s.pdf; ComponentLink4Description: ARM7TDMI Reference Manual; ComponentLink4URL: http://www.atmel.com/dyn/resources/prod_documents/DDI0029G_7TDMI_R3_trm.pdf; ComponentLink5Description: Atmel.com Home; ComponentLink5URL: http://www.atmel.com
footprint LQFP100_N (Thin QFP, 100-Leads, Body 14x14mm, Pitch 0.5mm, IPC Medium Density)
footprint LQFP100_L (Thin QFP, 100-Leads, Body 14x14mm, Pitch 0.5mm, IPC High Density)
footprint LQFP100_M (Thin QFP, 100-Leads, Body 14x14mm, Pitch 0.5mm, IPC Low Density)
part A pins: 25 P28/A20/CS7 (io), 26 P29/A21/CS6 (io), 29 P30/A22/CS5 (io), 30 P31/A23/CS4 (io), 49 P0/TCLK0 (io), 50 P1/TIOA0 (io), 51 P2/TIOB0 (io), 54 P3/TCLK1 (io), 55 P4/TIOA1 (io), 56 P5/TIOB1 (io), 57 P6/TCLK2 (io), 58 P7/TIOA2 (io), 59 P8/TIOB2 (io), 60 P9/IRQ0 (io), 63 P10/IRQ1 (io), 64 P11/IRQ2 (io), 66 P12/FIQ (io), 67 P13/SCK0 (io), 68 P14/TXD0 (io), 69 P15/RXD0 (io), 70 P16 (io), 71 P17 (io), 72 P18 (io), 73 P19 (io), 74 P20/SCK1 (io), 75 P21/TXD1/NTRI (io), 76 P22/RXD1 (io), 83 P23 (io), 84 P24/BMS (io), 85 P25/MCKO (io), 99 P26/NCS2 (io), 100 P27/NCS3 (io)
part B pins: 1 A0/NLB (out), 3 A1 (out), 4 A2 (out), 5 A3 (out), 6 A4 (out), 7 A5 (out), 8 A6 (out), 9 A7 (out), 11 A8 (out), 12 A9 (out), 13 A10 (out), 14 A11 (out), 15 A12 (out), 16 A13 (out), 17 A14 (out), 20 A15 (out), 21 A16 (out), 22 A17 (out), 23 A18 (out), 24 A19 (out), 31 D0 (io), 32 D1 (io), 33 D2 (io), 34 D3 (io), 35 D4 (io), 37 D5 (io), 38 D6 (io), 39 D7 (io), 40 D8 (io), 41 D9 (io), 42 D10 (io), 43 D11 (io), 45 D12 (io), 46 D13 (io), 47 D14 (io), 48 D15 (io), 77 NWR1/NUB (out), 79 NRST (in), 80 NWDOVF (oc), 82 MCKI (in), 92 NRD/NOE (out), 93 NWR0/NWE (out), 96 NWAIT (in), 97 NCS0 (out), 98 NCS1 (out)
part C pins: 88 TMS (in), 89 TDI (in), 90 TDO (out), 91 TCK (in)
part D pins: 2 GND (power), 10 VDDIO (power), 18 GND (power), 19 GND (power), 27 VDDCORE (power), 28 VDDIO (power), 36 GND (power), 44 VDDIO (power), 52 GND (power), 53 GND (power), 61 VDDCORE (power), 62 VDDIO (power), 65 GND (power), 78 GND (power), 81 VDDIO (power), 86 GND (power), 87 GND (power), 94 VDDCORE (power), 95 VDDIO (power)

## AT91R40807-33AI
designator U?
AT91 ARM Thumb 32-bit Microcontroller, 136KB SRAM, EBI, 32 User I/Os, 100-Pin LQFP, Industrial Grade (-40°C to 85°C); ComponentAvailability: Not recommended for new design.; Published: 20-Sep-2010; DatasheetVersion: revD, Oct-2002; PackageVersion: Apr-2006; PackageReference: LQFP100; Publisher: Altium Limited; PackageDescription: 100-Pin Thin Quad Flat Pack 0.5 mm Pitch; Supplier 1: Digi-Key; Supplier Part Number 1: AT91R40807-33AI-ND; Supplier 2: Mouser; Supplier Part Number 2: 556-A91R40807-33AI; Code_JEDEC: MS-026-BED; ComponentLink1Description: Manufacturer Link; ComponentLink1URL: http://www.atmel.com/products/AT91/default.asp?; ComponentLink2Description: AT91X40 Series Datasheet; ComponentLink2URL: http://www.atmel.com/dyn/resources/prod_documents/doc1354.pdf; ComponentLink3Description: AT91R40807 Summary; ComponentLink3URL: http://www.atmel.com/dyn/resources/prod_documents/1345S.PDF; ComponentLink4Description: ARM7TDMI Reference Manual; ComponentLink4URL: http://www.atmel.com/dyn/resources/prod_documents/DDI0029G_7TDMI_R3_trm.pdf; ComponentLink5Description: Atmel.com Home; ComponentLink5URL: http://www.atmel.com
footprint LQFP100_N (Thin QFP, 100-Leads, Body 14x14mm, Pitch 0.5mm, IPC Medium Density)
footprint LQFP100_L (Thin QFP, 100-Leads, Body 14x14mm, Pitch 0.5mm, IPC High Density)
footprint LQFP100_M (Thin QFP, 100-Leads, Body 14x14mm, Pitch 0.5mm, IPC Low Density)
part A pins: 25 P28/A20/CS7 (io), 26 P29/A21/CS6 (io), 29 P30/A22/CS5 (io), 30 P31/A23/CS4 (io), 49 P0/TCLK0 (io), 50 P1/TIOA0 (io), 51 P2/TIOB0 (io), 54 P3/TCLK1 (io), 55 P4/TIOA1 (io), 56 P5/TIOB1 (io), 57 P6/TCLK2 (io), 58 P7/TIOA2 (io), 59 P8/TIOB2 (io), 60 P9/IRQ0 (io), 63 P10/IRQ1 (io), 64 P11/IRQ2 (io), 66 P12/FIQ (io), 67 P13/SCK0 (io), 68 P14/TXD0 (io), 69 P15/RXD0 (io), 70 P16 (io), 71 P17 (io), 72 P18 (io), 73 P19 (io), 74 P20/SCK1 (io), 75 P21/TXD1/NTRI (io), 76 P22/RXD1 (io), 83 P23 (io), 84 P24/BMS (io), 85 P25/MCKO (io), 99 P26/NCS2 (io), 100 P27/NCS3 (io)
part B pins: 1 A0/NLB (out), 3 A1 (out), 4 A2 (out), 5 A3 (out), 6 A4 (out), 7 A5 (out), 8 A6 (out), 9 A7 (out), 11 A8 (out), 12 A9 (out), 13 A10 (out), 14 A11 (out), 15 A12 (out), 16 A13 (out), 17 A14 (out), 20 A15 (out), 21 A16 (out), 22 A17 (out), 23 A18 (out), 24 A19 (out), 31 D0 (io), 32 D1 (io), 33 D2 (io), 34 D3 (io), 35 D4 (io), 37 D5 (io), 38 D6 (io), 39 D7 (io), 40 D8 (io), 41 D9 (io), 42 D10 (io), 43 D11 (io), 45 D12 (io), 46 D13 (io), 47 D14 (io), 48 D15 (io), 77 NWR1/NUB (out), 79 NRST (in), 80 NWDOVF (oc), 82 MCKI (in), 92 NRD/NOE (out), 93 NWR0/NWE (out), 96 NWAIT (in), 97 NCS0 (out), 98 NCS1 (out)
part C pins: 88 TMS (in), 89 TDI (in), 90 TDO (out), 91 TCK (in)
part D pins: 2 GND (power), 10 VDD (power), 18 GND (power), 19 GND (power), 27 VDD (power), 28 VDD (power), 36 GND (power), 44 VDD (power), 52 GND (power), 53 GND (power), 61 VDD (power), 62 VDD (power), 65 GND (power), 78 GND (power), 81 VDD (power), 86 GND (power), 87 GND (power), 94 VDD (power), 95 VDD (power)

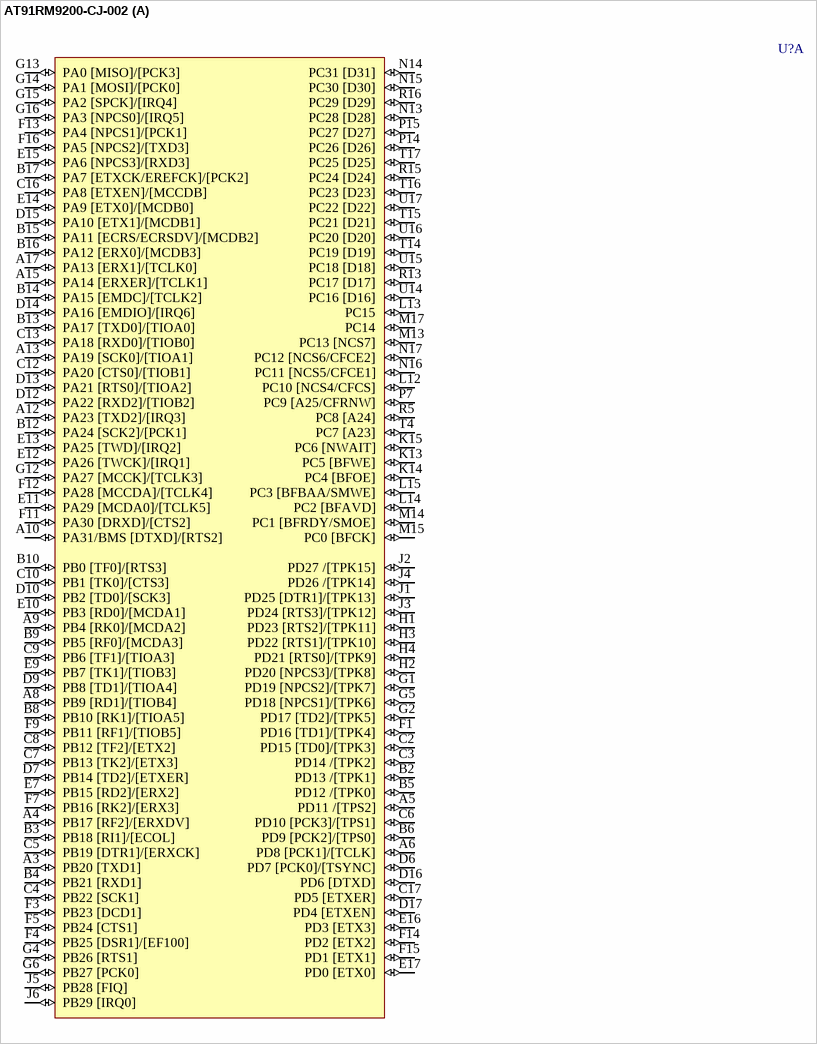
[diagram p3: symbol AT91RM9200-CJ-002]

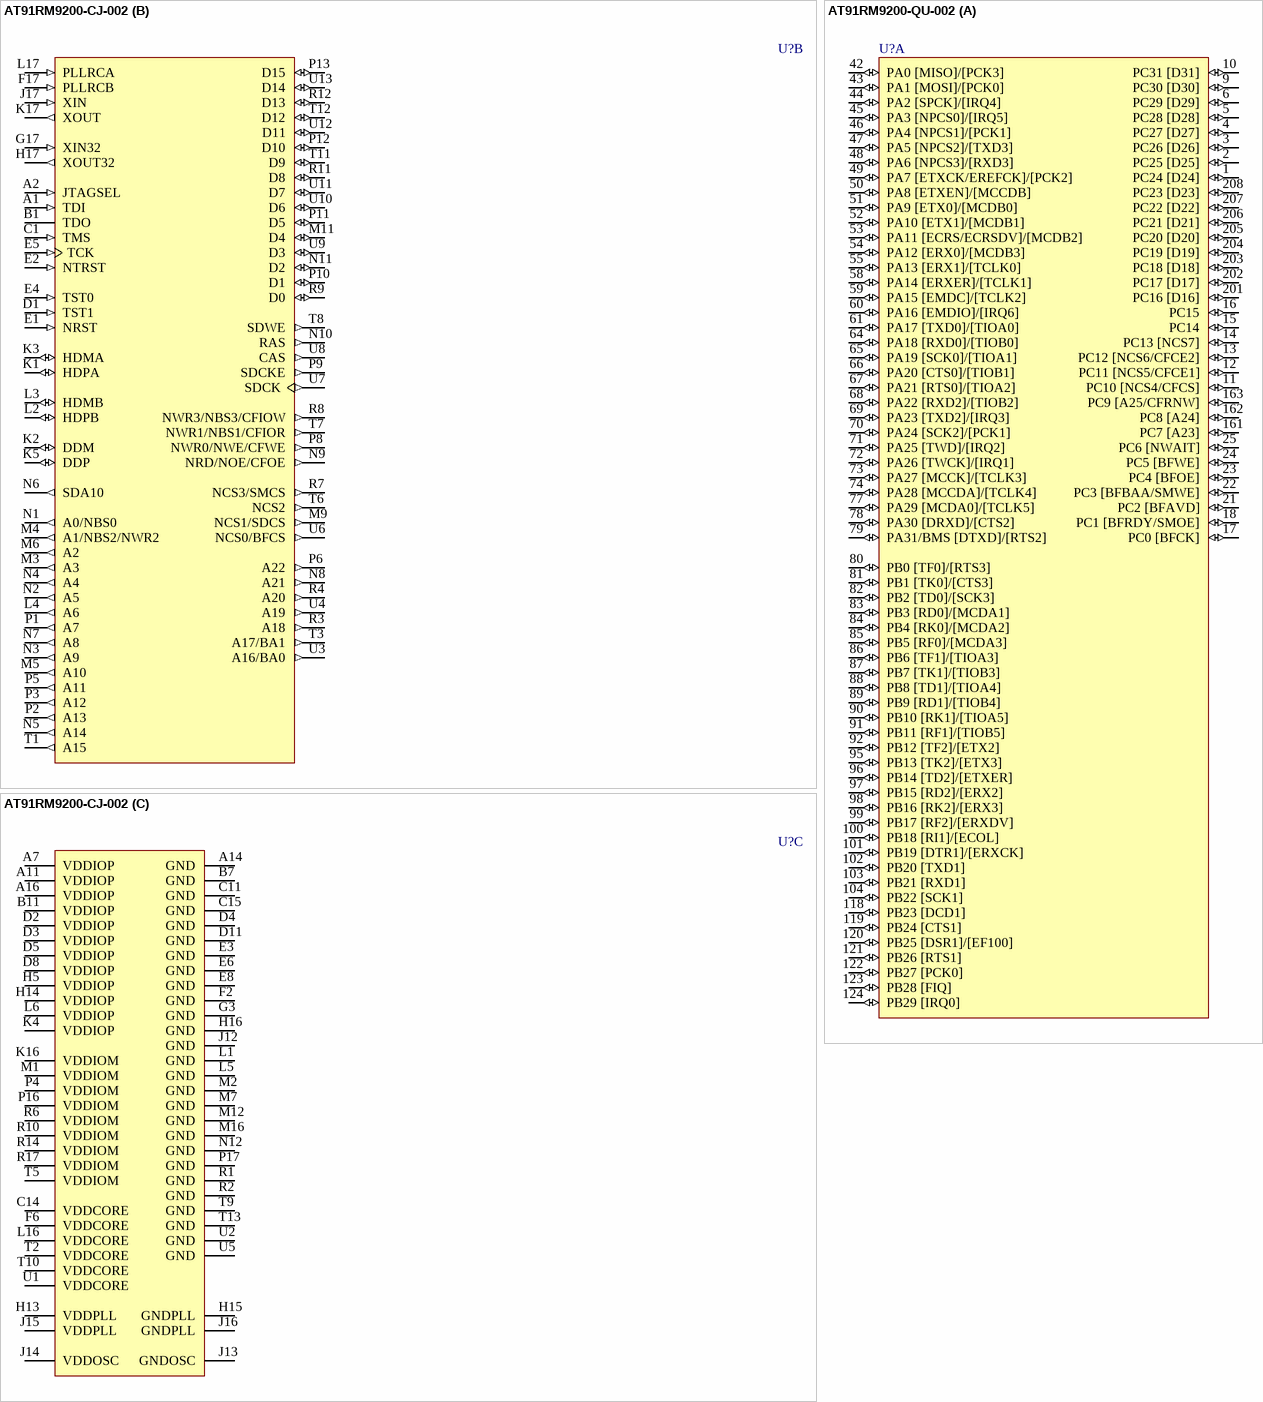
[diagram p4: symbols AT91RM9200-CJ-002 to AT91RM9200-QU-002]

## AT91RM9200-CJ-002
designator U?
ARM920T-based 200MIPS, 32-bit Microcontroller, 16KB Instruction & 16KB Data Caches, 208-Pin BGA, Industrial Grade (-40°C to 85°C), Pb-Free; Published: 6-Oct-2005; LatestRevisionDate: 13-Apr-2006; LatestRevisionNote: IPC-7351 Footprint Added.; DatasheetVersion: revI, Jul-2009; PackageVersion: Jul-2005; PackageReference: BGA256; Publisher: Altium Limited; PackageDescription: 256-Ball Ball Grid Array 0.8 mm Pitch; Supplier 1: Digi-Key; Supplier Part Number 1: AT91RM9200-CJ-002-ND; Supplier 2: Mouser; Supplier Part Number 2: 556-A91RM9200CJ-002; Code_JEDEC: MO-205E (Depopulated); ComponentLink1Description: Manufacturer Link; ComponentLink1URL: http://www.atmel.com/products/AT91/default.asp?; ComponentLink2Description: AT91RM9200 Datasheet; ComponentLink2URL: http://www.atmel.com/dyn/resources/prod_documents/doc1768.pdf; ComponentLink3Description: AT91RM9200 Summary; ComponentLink3URL: http://www.atmel.com/dyn/resources/prod_documents/1768s.pdf; ComponentLink4Description: ARM920T Reference Manual; ComponentLink4URL: http://www.atmel.com/dyn/resources/prod_documents/ARM_920T_TRM.pdf; ComponentLink5Description: Atmel.com Home; ComponentLink5URL: http://www.atmel.com
footprint BGA256 (BGA, 256-Leads, Body 15x15mm, Pitch 0.8mm)
part A pins: A3 PB20 [TXD1] (io), A4 PB17 [RF2]/[ERXDV] (io), A5 PD11 /[TPS2] (io), A6 PD8 [PCK1]/[TCLK] (io), A8 PB9 [RD1]/[TIOB4] (io), A9 PB4 [RK0]/[MCDA2] (io), A10 PA31/BMS [DTXD]/[RTS2] (io), A12 PA23 [TXD2]/[IRQ3] (io), A13 PA19 [SCK0]/[TIOA1] (io), A15 PA14 [ERXER]/[TCLK1] (io), A17 PA13 [ERX1]/[TCLK0] (io), B2 PD13 /[TPK1] (io), B3 PB18 [RI1]/[ECOL] (io), B4 PB21 [RXD1] (io), B5 PD12 /[TPK0] (io), B6 PD9 [PCK2]/[TPS0] (io), B8 PB10 [RK1]/[TIOA5] (io), B9 PB5 [RF0]/[MCDA3] (io), B10 PB0 [TF0]/[RTS3] (io), B12 PA24 [SCK2]/[PCK1] (io), B13 PA17 [TXD0]/[TIOA0] (io), B14 PA15 [EMDC]/[TCLK2] (io), B15 PA11 [ECRS/ECRSDV]/[MCDB2] (io), B16 PA12 [ERX0]/[MCDB3] (io), B17 PA7 [ETXCK/EREFCK]/[PCK2] (io), C2 PD15 [TD0]/[TPK3] (io), C3 PD14 /[TPK2] (io), C4 PB22 [SCK1] (io), C5 PB19 [DTR1]/[ERXCK] (io), C6 PD10 [PCK3]/[TPS1] (io), C7 PB13 [TK2]/[ETX3] (io), C8 PB12 [TF2]/[ETX2] (io), C9 PB6 [TF1]/[TIOA3] (io), C10 PB1 [TK0]/[CTS3] (io), C12 PA20 [CTS0]/[TIOB1] (io), C13 PA18 [RXD0]/[TIOB0] (io), C16 PA8 [ETXEN]/[MCCDB] (io), C17 PD5 [ETXER] (io), D6 PD7 [PCK0]/[TSYNC] (io), D7 PB14 [TD2]/[ETXER] (io), D9 PB8 [TD1]/[TIOA4] (io), D10 PB2 [TD0]/[SCK3] (io), D12 PA22 [RXD2]/[TIOB2] (io), D13 PA21 [RTS0]/[TIOA2] (io), D14 PA16 [EMDIO]/[IRQ6] (io), D15 PA10 [ETX1]/[MCDB1] (io), D16 PD6 [DTXD] (io), D17 PD4 [ETXEN] (io), E7 PB15 [RD2]/[ERX2] (io), E9 PB7 [TK1]/[TIOB3] (io), E10 PB3 [RD0]/[MCDA1] (io), E11 PA29 [MCDA0]/[TCLK5] (io), E12 PA26 [TWCK]/[IRQ1] (io), E13 PA25 [TWD]/[IRQ2] (io), E14 PA9 [ETX0]/[MCDB0] (io), E15 PA6 [NPCS3]/[RXD3] (io), E16 PD3 [ETX3] (io), E17 PD0 [ETX0] (io), F1 PD16 [TD1]/[TPK4] (io), F3 PB23 [DCD1] (io), F4 PB25 [DSR1]/[EF100] (io), F5 PB24 [CTS1] (io), F7 PB16 [RK2]/[ERX3] (io), F9 PB11 [RF1]/[TIOB5] (io), F11 PA30 [DRXD]/[CTS2] (io), F12 PA28 [MCCDA]/[TCLK4] (io), F13 PA4 [NPCS1]/[PCK1] (io), F14 PD2 [ETX2] (io), F15 PD1 [ETX1] (io), F16 PA5 [NPCS2]/[TXD3] (io), G1 PD19 [NPCS2]/[TPK7] (io), G2 PD17 [TD2]/[TPK5] (io), G4 PB26 [RTS1] (io), G5 PD18 [NPCS1]/[TPK6] (io), G6 PB27 [PCK0] (io), G12 PA27 [MCCK]/[TCLK3] (io), G13 PA0 [MISO]/[PCK3] (io), G14 PA1 [MOSI]/[PCK0] (io), G15 PA2 [SPCK]/[IRQ4] (io), G16 PA3 [NPCS0]/[IRQ5] (io), H1 PD23 [RTS2]/[TPK11] (io), H2 PD20 [NPCS3]/[TPK8] (io), H3 PD22 [RTS1]/[TPK10] (io), H4 PD21 [RTS0]/[TPK9] (io), J1 PD25 [DTR1]/[TPK13] (io), J2 PD27 /[TPK15] (io), J3 PD24 [RTS3]/[TPK12] (io), J4 PD26 /[TPK14] (io), J5 PB28 [FIQ] (io), J6 PB29 [IRQ0] (io), K13 PC5 [BFWE] (io), K14 PC4 [BFOE] (io), K15 PC6 [NWAIT] (io), L12 PC10 [NCS4/CFCS] (io), L13 PC15 (io), L14 PC2 [BFAVD] (io), L15 PC3 [BFBAA/SMWE] (io), M13 PC13 [NCS7] (io), M14 PC1 [BFRDY/SMOE] (io), M15 PC0 [BFCK] (io), M17 PC14 (io), N13 PC28 [D28] (io), N14 PC31 [D31] (io), N15 PC30 [D30] (io), N16 PC11 [NCS5/CFCE1] (io), N17 PC12 [NCS6/CFCE2] (io), P7 PC9 [A25/CFRNW] (io), P14 PC26 [D26] (io), P15 PC27 [D27] (io), R5 PC8 [A24] (io), R13 PC17 [D17] (io), R15 PC24 [D24] (io), R16 PC29 [D29] (io), T4 PC7 [A23] (io), T14 PC19 [D19] (io), T15 PC21 [D21] (io), T16 PC23 [D23] (io), T17 PC25 [D25] (io), U14 PC16 [D16] (io), U15 PC18 [D18] (io), U16 PC20 [D20] (io), U17 PC22 [D22] (io)
part B pins: A1 TDI (in), A2 JTAGSEL (in), B1 TDO (hiz), C1 TMS (in), D1 TST1 (in), E1 NRST (in), E2 NTRST (in), E4 TST0 (in), E5 TCK (in), F17 PLLRCB (in), G17 XIN32 (in), H17 XOUT32 (out), J17 XIN (in), K1 HDPA (io), K2 DDM (io), K3 HDMA (io), K5 DDP (io), K17 XOUT (out), L2 HDPB (io), L3 HDMB (io), L4 A6 (out), L17 PLLRCA (in), M3 A3 (out), M4 A1/NBS2/NWR2 (out), M5 A10 (out), M6 A2 (out), M9 NCS1/SDCS (out), M11 D4 (io), N1 A0/NBS0 (out), N2 A5 (out), N3 A9 (out), N4 A4 (out), N5 A14 (out), N6 SDA10 (out), N7 A8 (out), N8 A21 (out), N9 NRD/NOE/CFOE (out), N10 RAS (out), N11 D2 (io), P1 A7 (out), P2 A13 (out), P3 A12 (out), P5 A11 (out), P6 A22 (out), P8 NWR0/NWE/CFWE (out), P9 SDCKE (out), P10 D1 (io), P11 D5 (io), P12 D10 (io), P13 D15 (io), R3 A18 (out), R4 A20 (out), R7 NCS3/SMCS (out), R8 NWR3/NBS3/CFIOW (out), R9 D0 (io), R11 D8 (io), R12 D13 (io), T1 A15 (out), T3 A17/BA1 (out), T6 NCS2 (out), T7 NWR1/NBS1/CFIOR (out), T8 SDWE (out), T11 D9 (io), T12 D12 (io), U3 A16/BA0 (out), U4 A19 (out), U6 NCS0/BFCS (out), U7 SDCK (out), U8 CAS (out), U9 D3 (io), U10 D6 (io), U11 D7 (io), U12 D11 (io), U13 D14 (io)
part C pins: A7 VDDIOP (power), A11 VDDIOP (power), A14 GND (power), A16 VDDIOP (power), B7 GND (power), B11 VDDIOP (power), C11 GND (power), C14 VDDCORE (power), C15 GND (power), D2 VDDIOP (power), D3 VDDIOP (power), D4 GND (power), D5 VDDIOP (power), D8 VDDIOP (power), D11 GND (power), E3 GND (power), E6 GND (power), E8 GND (power), F2 GND (power), F6 VDDCORE (power), G3 GND (power), H5 VDDIOP (power), H13 VDDPLL (power), H14 VDDIOP (power), H15 GNDPLL (power), H16 GND (power), J12 GND (power), J13 GNDOSC (power), J14 VDDOSC (power), J15 VDDPLL (power), J16 GNDPLL (power), K4 VDDIOP (power), K16 VDDIOM (power), L1 GND (power), L5 GND (power), L6 VDDIOP (power), L16 VDDCORE (power), M1 VDDIOM (power), M2 GND (power), M7 GND (power), M12 GND (power), M16 GND (power), N12 GND (power), P4 VDDIOM (power), P16 VDDIOM (power), P17 GND (power), R1 GND (power), R2 GND (power), R6 VDDIOM (power), R10 VDDIOM (power), R14 VDDIOM (power), R17 VDDIOM (power), T2 VDDCORE (power), T5 VDDIOM (power), T9 GND (power), T10 VDDCORE (power), T13 GND (power), U1 VDDCORE (power), U2 GND (power), U5 GND (power)

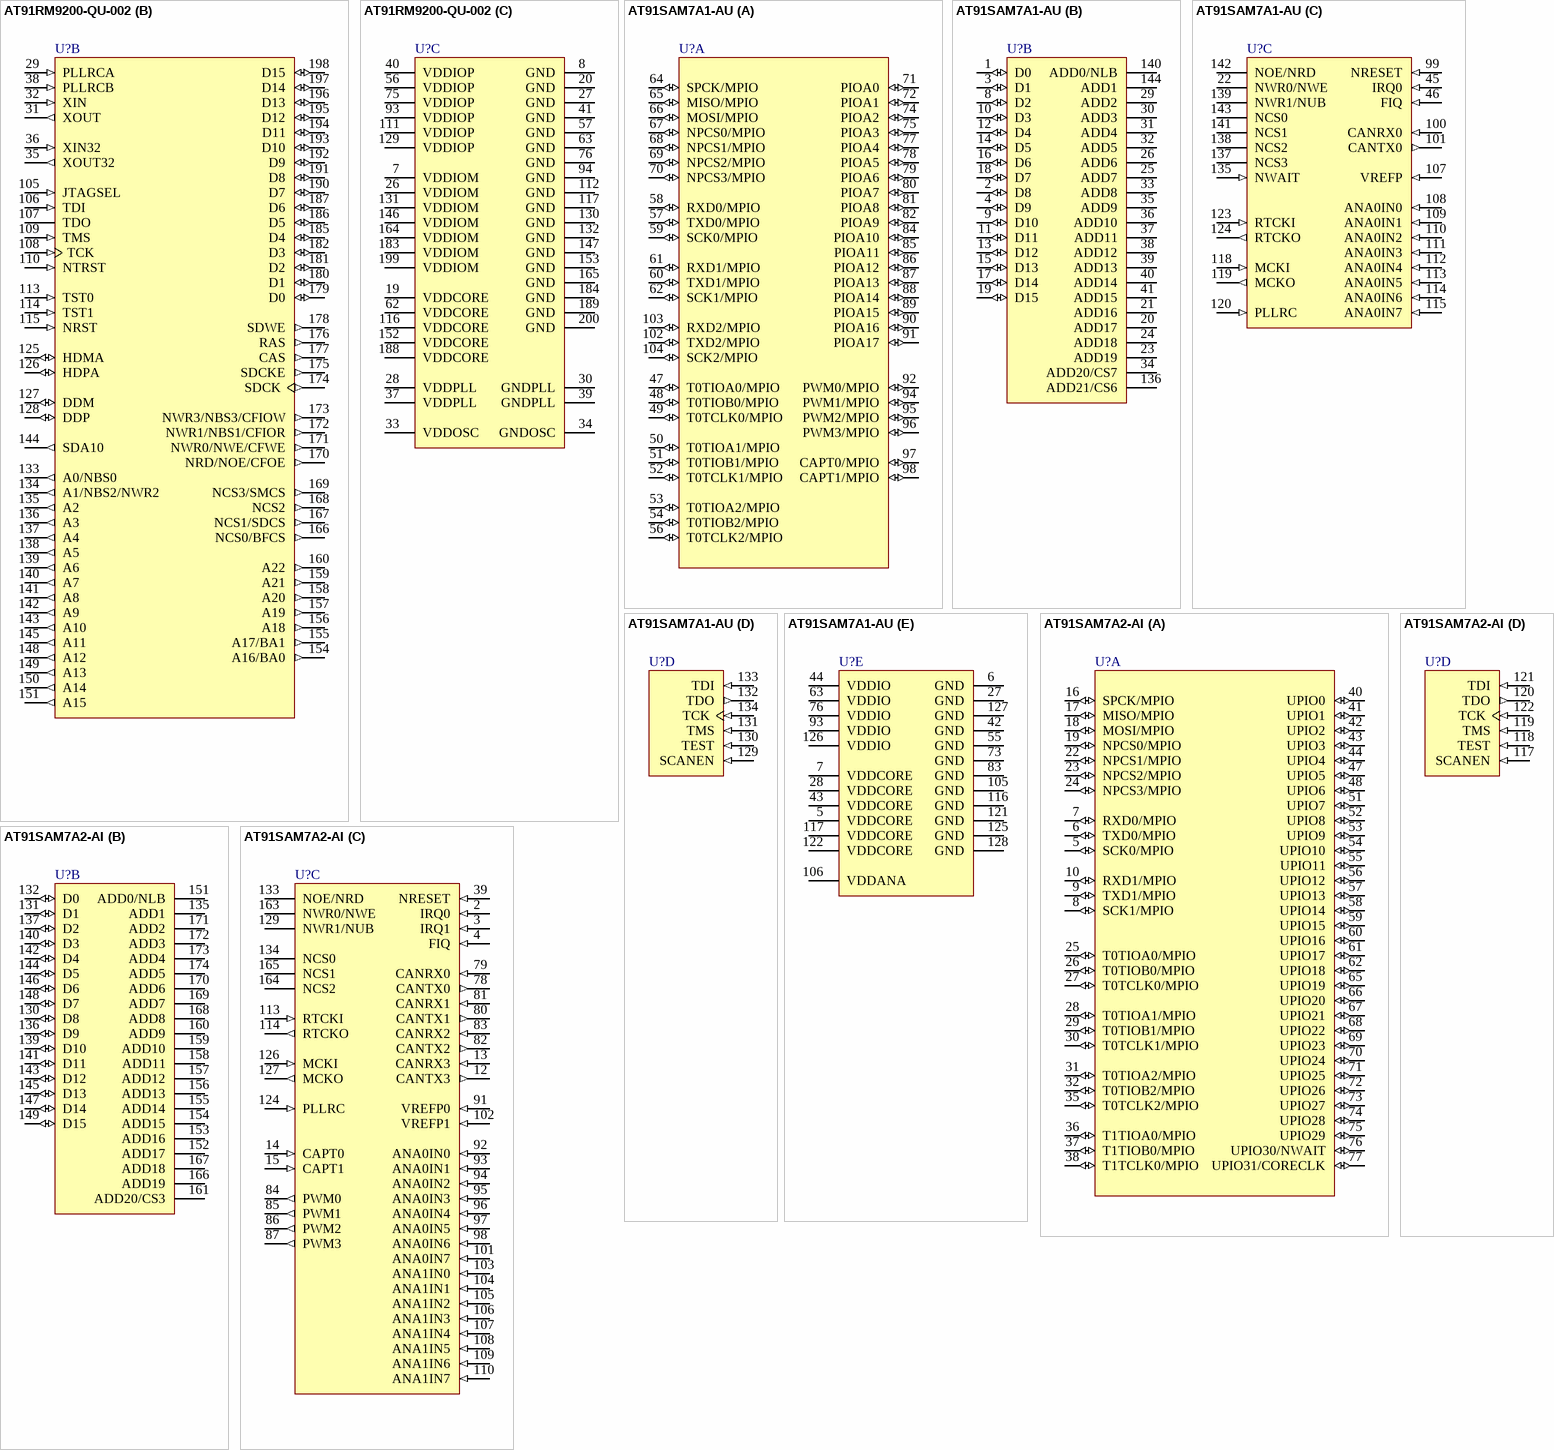
[diagram p5: symbols AT91RM9200-QU-002 to AT91SAM7A2-AI]

## AT91RM9200-QU-002
designator U?
ARM920T-based 200MIPS, 32-bit Microcontroller, 16KB Instruction & 16KB Data Caches, 208-Pin PQFP, Industrial Grade (-40°C to 85°C), Pb-Free; Published: 6-Oct-2005; LatestRevisionDate: 13-Apr-2006; LatestRevisionNote: IPC-7351 Footprint Added.; DatasheetVersion: revI, Jul-2009; PackageVersion: Jul-2005; PackageReference: QFP208; Publisher: Altium Limited; PackageDescription: 208-Pin Plastic Shrink Quad Flat Pack 0.5 mm Pitch; Supplier 1: Digi-Key; Supplier Part Number 1: AT91RM9200-QU-002-ND; Supplier 2: Mouser; Supplier Part Number 2: 556-A91RM9200QU-002; Code_JEDEC: MS-022; ComponentLink1Description: Manufacturer Link; ComponentLink1URL: http://www.atmel.com/products/AT91/default.asp?; ComponentLink2Description: AT91RM9200 Datasheet; ComponentLink2URL: http://www.atmel.com/dyn/resources/prod_documents/doc1768.pdf; ComponentLink3Description: AT91RM9200 Summary; ComponentLink3URL: http://www.atmel.com/dyn/resources/prod_documents/1768s.pdf; ComponentLink4Description: ARM920T Reference Manual; ComponentLink4URL: http://www.atmel.com/dyn/resources/prod_documents/ARM_920T_TRM.pdf; ComponentLink5Description: Atmel.com Home; ComponentLink5URL: http://www.atmel.com
footprint QFP208_N (Shrink QFP, 208-Leads, Body 28x28mm, Pitch 0.5mm, IPC Medium Density)
footprint QFP208_L (Shrink QFP, 208-Leads, Body 28x28mm, Pitch 0.5mm, IPC High Density)
footprint QFP208_M (Shrink QFP, 208-Leads, Body 28x28mm, Pitch 0.5mm, IPC Low Density)
part A pins: 1 PC24 [D24] (io), 2 PC25 [D25] (io), 3 PC26 [D26] (io), 4 PC27 [D27] (io), 5 PC28 [D28] (io), 6 PC29 [D29] (io), 9 PC30 [D30] (io), 10 PC31 [D31] (io), 11 PC10 [NCS4/CFCS] (io), 12 PC11 [NCS5/CFCE1] (io), 13 PC12 [NCS6/CFCE2] (io), 14 PC13 [NCS7] (io), 15 PC14 (io), 16 PC15 (io), 17 PC0 [BFCK] (io), 18 PC1 [BFRDY/SMOE] (io), 21 PC2 [BFAVD] (io), 22 PC3 [BFBAA/SMWE] (io), 23 PC4 [BFOE] (io), 24 PC5 [BFWE] (io), 25 PC6 [NWAIT] (io), 42 PA0 [MISO]/[PCK3] (io), 43 PA1 [MOSI]/[PCK0] (io), 44 PA2 [SPCK]/[IRQ4] (io), 45 PA3 [NPCS0]/[IRQ5] (io), 46 PA4 [NPCS1]/[PCK1] (io), 47 PA5 [NPCS2]/[TXD3] (io), 48 PA6 [NPCS3]/[RXD3] (io), 49 PA7 [ETXCK/EREFCK]/[PCK2] (io), 50 PA8 [ETXEN]/[MCCDB] (io), 51 PA9 [ETX0]/[MCDB0] (io), 52 PA10 [ETX1]/[MCDB1] (io), 53 PA11 [ECRS/ECRSDV]/[MCDB2] (io), 54 PA12 [ERX0]/[MCDB3] (io), 55 PA13 [ERX1]/[TCLK0] (io), 58 PA14 [ERXER]/[TCLK1] (io), 59 PA15 [EMDC]/[TCLK2] (io), 60 PA16 [EMDIO]/[IRQ6] (io), 61 PA17 [TXD0]/[TIOA0] (io), 64 PA18 [RXD0]/[TIOB0] (io), 65 PA19 [SCK0]/[TIOA1] (io), 66 PA20 [CTS0]/[TIOB1] (io), 67 PA21 [RTS0]/[TIOA2] (io), 68 PA22 [RXD2]/[TIOB2] (io), 69 PA23 [TXD2]/[IRQ3] (io), 70 PA24 [SCK2]/[PCK1] (io), 71 PA25 [TWD]/[IRQ2] (io), 72 PA26 [TWCK]/[IRQ1] (io), 73 PA27 [MCCK]/[TCLK3] (io), 74 PA28 [MCCDA]/[TCLK4] (io), 77 PA29 [MCDA0]/[TCLK5] (io), 78 PA30 [DRXD]/[CTS2] (io), 79 PA31/BMS [DTXD]/[RTS2] (io), 80 PB0 [TF0]/[RTS3] (io), 81 PB1 [TK0]/[CTS3] (io), 82 PB2 [TD0]/[SCK3] (io), 83 PB3 [RD0]/[MCDA1] (io), 84 PB4 [RK0]/[MCDA2] (io), 85 PB5 [RF0]/[MCDA3] (io), 86 PB6 [TF1]/[TIOA3] (io), 87 PB7 [TK1]/[TIOB3] (io), 88 PB8 [TD1]/[TIOA4] (io), 89 PB9 [RD1]/[TIOB4] (io), 90 PB10 [RK1]/[TIOA5] (io), 91 PB11 [RF1]/[TIOB5] (io), 92 PB12 [TF2]/[ETX2] (io), 95 PB13 [TK2]/[ETX3] (io), 96 PB14 [TD2]/[ETXER] (io), 97 PB15 [RD2]/[ERX2] (io), 98 PB16 [RK2]/[ERX3] (io), 99 PB17 [RF2]/[ERXDV] (io), 100 PB18 [RI1]/[ECOL] (io), 101 PB19 [DTR1]/[ERXCK] (io), 102 PB20 [TXD1] (io), 103 PB21 [RXD1] (io), 104 PB22 [SCK1] (io), 118 PB23 [DCD1] (io), 119 PB24 [CTS1] (io), 120 PB25 [DSR1]/[EF100] (io), 121 PB26 [RTS1] (io), 122 PB27 [PCK0] (io), 123 PB28 [FIQ] (io), 124 PB29 [IRQ0] (io), 161 PC7 [A23] (io), 162 PC8 [A24] (io), 163 PC9 [A25/CFRNW] (io), 201 PC16 [D16] (io), 202 PC17 [D17] (io), 203 PC18 [D18] (io), 204 PC19 [D19] (io), 205 PC20 [D20] (io), 206 PC21 [D21] (io), 207 PC22 [D22] (io), 208 PC23 [D23] (io)
part B pins: 29 PLLRCA (in), 31 XOUT (out), 32 XIN (in), 35 XOUT32 (out), 36 XIN32 (in), 38 PLLRCB (in), 105 JTAGSEL (in), 106 TDI (in), 107 TDO (hiz), 108 TCK (in), 109 TMS (in), 110 NTRST (in), 113 TST0 (in), 114 TST1 (in), 115 NRST (in), 125 HDMA (io), 126 HDPA (io), 127 DDM (io), 128 DDP (io), 133 A0/NBS0 (out), 134 A1/NBS2/NWR2 (out), 135 A2 (out), 136 A3 (out), 137 A4 (out), 138 A5 (out), 139 A6 (out), 140 A7 (out), 141 A8 (out), 142 A9 (out), 143 A10 (out), 144 SDA10 (out), 145 A11 (out), 148 A12 (out), 149 A13 (out), 150 A14 (out), 151 A15 (out), 154 A16/BA0 (out), 155 A17/BA1 (out), 156 A18 (out), 157 A19 (out), 158 A20 (out), 159 A21 (out), 160 A22 (out), 166 NCS0/BFCS (out), 167 NCS1/SDCS (out), 168 NCS2 (out), 169 NCS3/SMCS (out), 170 NRD/NOE/CFOE (out), 171 NWR0/NWE/CFWE (out), 172 NWR1/NBS1/CFIOR (out), 173 NWR3/NBS3/CFIOW (out), 174 SDCK (out), 175 SDCKE (out), 176 RAS (out), 177 CAS (out), 178 SDWE (out), 179 D0 (io), 180 D1 (io), 181 D2 (io), 182 D3 (io), 185 D4 (io), 186 D5 (io), 187 D6 (io), 190 D7 (io), 191 D8 (io), 192 D9 (io), 193 D10 (io), 194 D11 (io), 195 D12 (io), 196 D13 (io), 197 D14 (io), 198 D15 (io)
part C pins: 7 VDDIOM (power), 8 GND (power), 19 VDDCORE (power), 20 GND (power), 26 VDDIOM (power), 27 GND (power), 28 VDDPLL (power), 30 GNDPLL (power), 33 VDDOSC (power), 34 GNDOSC (power), 37 VDDPLL (power), 39 GNDPLL (power), 40 VDDIOP (power), 41 GND (power), 56 VDDIOP (power), 57 GND (power), 62 VDDCORE (power), 63 GND (power), 75 VDDIOP (power), 76 GND (power), 93 VDDIOP (power), 94 GND (power), 111 VDDIOP (power), 112 GND (power), 116 VDDCORE (power), 117 GND (power), 129 VDDIOP (power), 130 GND (power), 131 VDDIOM (power), 132 GND (power), 146 VDDIOM (power), 147 GND (power), 152 VDDCORE (power), 153 GND (power), 164 VDDIOM (power), 165 GND (power), 183 VDDIOM (power), 184 GND (power), 188 VDDCORE (power), 189 GND (power), 199 VDDIOM (power), 200 GND (power)

## AT91SAM7A1-AU
designator U?
AT91 ARM Thumb-based 32-bit Microcontroller, 4KB SRAM, EBI, 1CAN, 11-ch. PDC, 144-pin LQFP, Industrial Grade (-40°C to 85°C), Pb-Free; ComponentAvailability: Not recommended for new design.; Published: 16-Oct-2006; DatasheetVersion: revC, Jun-2006; PackageVersion: rev.C, Oct-2001; PackageReference: 144AA; Publisher: Altium Limited; PackageDescription: 144-Pin Thin Quad Flat Pack 0.5 mm Pitch; Supplier 1: Digi-Key; Supplier Part Number 1: AT91SAM7A1-AU-ND; Supplier 2: Mouser; Supplier Part Number 2: 556-AT91SAM7A1-AU; Code_JEDEC: MS-026-BFB; ComponentLink1Description: Manufacturer Link; ComponentLink1URL: http://www.atmel.com/products/AT91/default.asp?; ComponentLink2Description: AT91SAM7A1 Summary; ComponentLink2URL: http://www.atmel.com/dyn/resources/prod_documents/6048s.pdf; ComponentLink3Description: ARM7TDMI Reference Manual; ComponentLink3URL: http://www.atmel.com/dyn/resources/prod_documents/DDI0029G_7TDMI_R3_trm.pdf; ComponentLink4Description: Atmel.com Home; ComponentLink4URL: http://www.atmel.com
footprint 144AA_N (Thin QFP, 144-Leads, Body 20x20mm, Pitch 0.5mm, IPC Medium Density)
footprint 144AA_L (Thin QFP, 144-Leads, Body 20x20mm, Pitch 0.5mm, IPC High Density)
footprint 144AA_M (Thin QFP, 144-Leads, Body 20x20mm, Pitch 0.5mm, IPC Low Density)
part A pins: 47 T0TIOA0/MPIO (io), 48 T0TIOB0/MPIO (io), 49 T0TCLK0/MPIO (io), 50 T0TIOA1/MPIO (io), 51 T0TIOB1/MPIO (io), 52 T0TCLK1/MPIO (io), 53 T0TIOA2/MPIO (io), 54 T0TIOB2/MPIO (io), 56 T0TCLK2/MPIO (io), 57 TXD0/MPIO (io), 58 RXD0/MPIO (io), 59 SCK0/MPIO (io), 60 TXD1/MPIO (io), 61 RXD1/MPIO (io), 62 SCK1/MPIO (io), 64 SPCK/MPIO (io), 65 MISO/MPIO (io), 66 MOSI/MPIO (io), 67 NPCS0/MPIO (io), 68 NPCS1/MPIO (io), 69 NPCS2/MPIO (io), 70 NPCS3/MPIO (io), 71 PIOA0 (io), 72 PIOA1 (io), 74 PIOA2 (io), 75 PIOA3 (io), 77 PIOA4 (io), 78 PIOA5 (io), 79 PIOA6 (io), 80 PIOA7 (io), 81 PIOA8 (io), 82 PIOA9 (io), 84 PIOA10 (io), 85 PIOA11 (io), 86 PIOA12 (io), 87 PIOA13 (io), 88 PIOA14 (io), 89 PIOA15 (io), 90 PIOA16 (io), 91 PIOA17 (io), 92 PWM0/MPIO (io), 94 PWM1/MPIO (io), 95 PWM2/MPIO (io), 96 PWM3/MPIO (io), 97 CAPT0/MPIO (io), 98 CAPT1/MPIO (io), 102 TXD2/MPIO (io), 103 RXD2/MPIO (io), 104 SCK2/MPIO (io)
part B pins: 1 D0 (io), 2 D8 (io), 3 D1 (io), 4 D9 (io), 8 D2 (io), 9 D10 (io), 10 D3 (io), 11 D11 (io), 12 D4 (io), 13 D12 (io), 14 D5 (io), 15 D13 (io), 16 D6 (io), 17 D14 (io), 18 D7 (io), 19 D15 (io), 20 ADD17 (hiz), 21 ADD16 (hiz), 23 ADD19 (hiz), 24 ADD18 (hiz), 25 ADD7 (hiz), 26 ADD6 (hiz), 29 ADD2 (hiz), 30 ADD3 (hiz), 31 ADD4 (hiz), 32 ADD5 (hiz), 33 ADD8 (hiz), 34 ADD20/CS7 (hiz), 35 ADD9 (hiz), 36 ADD10 (hiz), 37 ADD11 (hiz), 38 ADD12 (hiz), 39 ADD13 (hiz), 40 ADD14 (hiz), 41 ADD15 (hiz), 136 ADD21/CS6 (hiz), 140 ADD0/NLB (hiz), 144 ADD1 (hiz)
part C pins: 22 NWR0/NWE (hiz), 45 IRQ0 (in), 46 FIQ (in), 99 NRESET (in), 100 CANRX0 (in), 101 CANTX0 (out), 107 VREFP (in), 108 ANA0IN0 (in), 109 ANA0IN1 (in), 110 ANA0IN2 (in), 111 ANA0IN3 (in), 112 ANA0IN4 (in), 113 ANA0IN5 (in), 114 ANA0IN6 (in), 115 ANA0IN7 (in), 118 MCKI (in), 119 MCKO (out), 120 PLLRC (in), 123 RTCKI (in), 124 RTCKO (out), 135 NWAIT (in), 137 NCS3 (hiz), 138 NCS2 (hiz), 139 NWR1/NUB (hiz), 141 NCS1 (hiz), 142 NOE/NRD (hiz), 143 NCS0 (hiz)
part D pins: 129 SCANEN (in), 130 TEST (in), 131 TMS (in), 132 TDO (out), 133 TDI (in), 134 TCK (in)
part E pins: 5 VDDCORE (power), 6 GND (power), 7 VDDCORE (power), 27 GND (power), 28 VDDCORE (power), 42 GND (power), 43 VDDCORE (power), 44 VDDIO (power), 55 GND (power), 63 VDDIO (power), 73 GND (power), 76 VDDIO (power), 83 GND (power), 93 VDDIO (power), 105 GND (power), 106 VDDANA (power), 116 GND (power), 117 VDDCORE (power), 121 GND (power), 122 VDDCORE (power), 125 GND (power), 126 VDDIO (power), 127 GND (power), 128 GND (power)

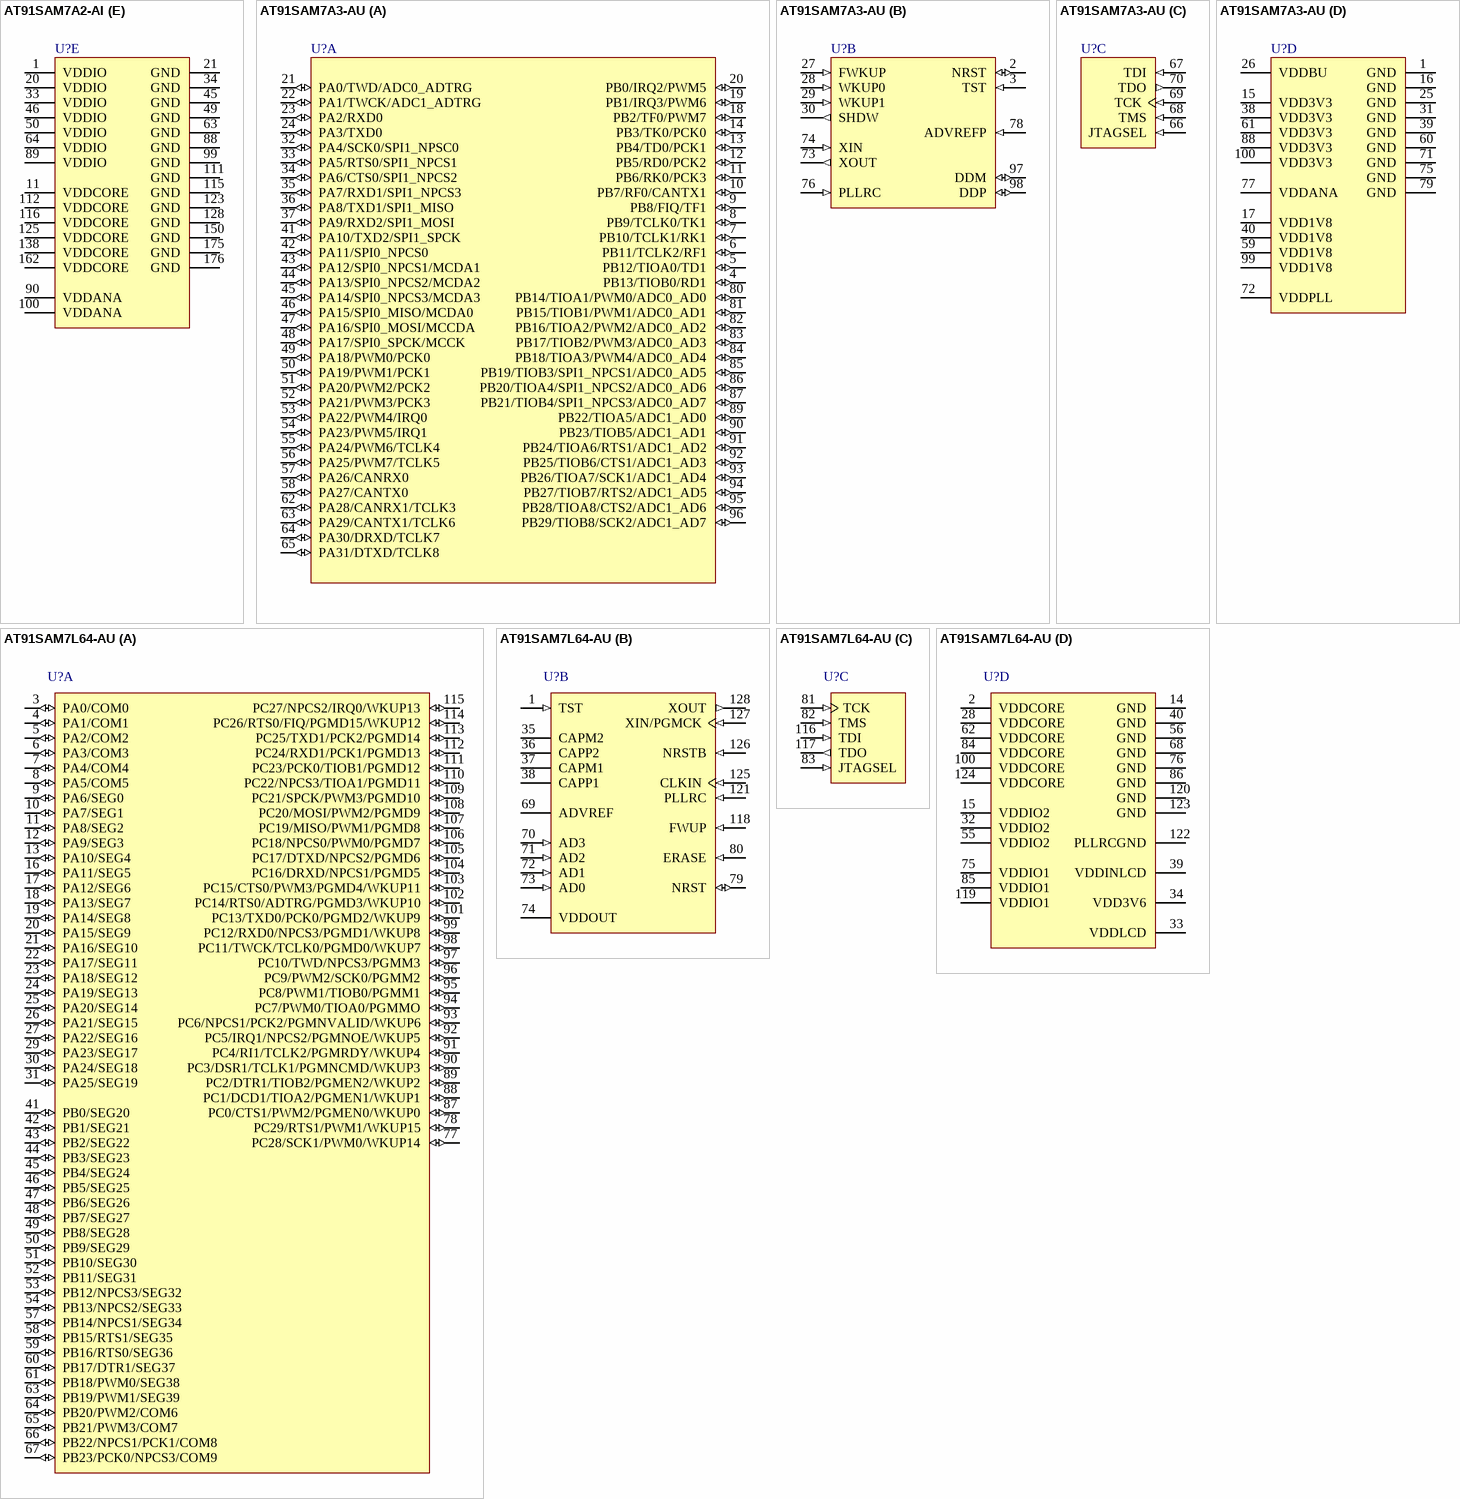
[diagram p6: symbols AT91SAM7A2-AI to AT91SAM7L64-AU]